# Altium schematic symbol library Wurth_Elektronik_Electromechanic_Wire_to_Board_Connectors_rev16a.SCHLIB: 662 symbols (part 2 of 10)
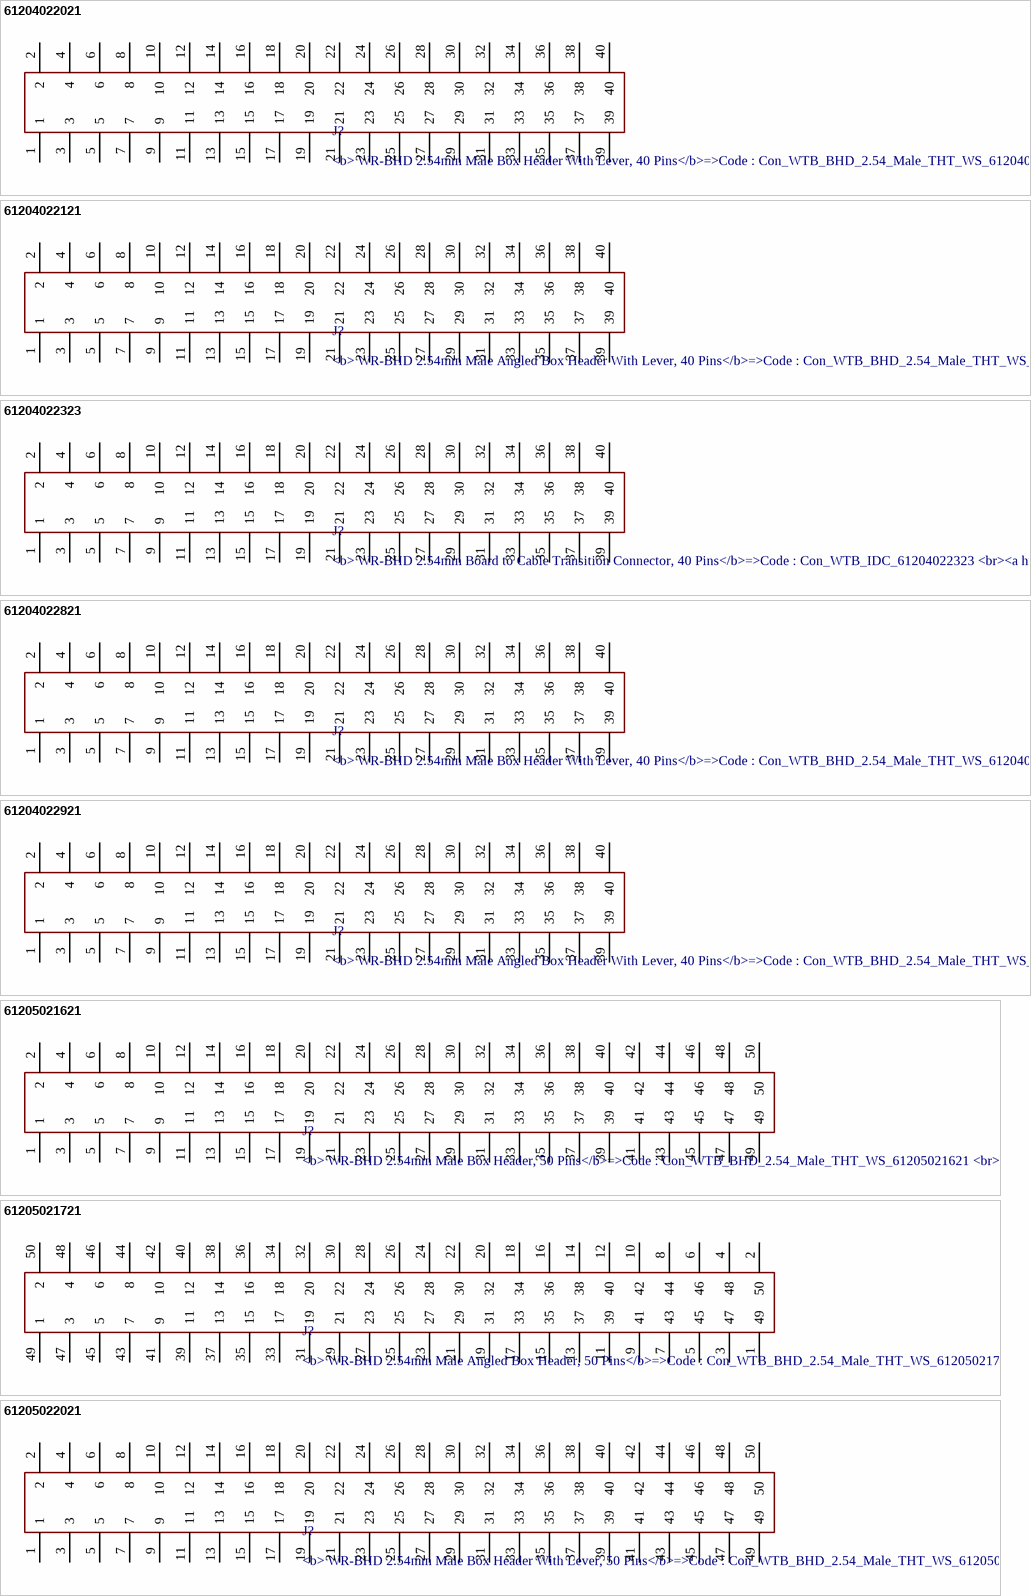
[diagram p63: symbols 61204022021 to 61205022021]

## 61204022121
designator J?, comment <b> WR-BHD 2.54mm Male Angled Box Header With Lever, 40 Pins</b>=>Code : Con_WTB_BHD_2.54_Male_THT_WS_61204022121 / <br><a href="http://katalog.we-online.de/media/thumbs2/eican/thb_Con_WTB_BHD_2.54_Male_THT_WS_6120xx22121_pf2.jpg" title="Enlarge picture"> / <img src="http://katalog.we-online.de/media/thumbs2/eican/thb_Con_WTB_BHD_2.54_Male_THT_WS_6120xx22121_pf2.jpg"  width="320"></a><p> / Details see: <a href="http://katalog.we-online.de/en/em/612_0xx_221_21">http://katalog.we-online.de/en/em/612_0xx_221_21</a><p> / Created 2014-06-05, Karrer Zheng<br> / 2014 (C) Würth Elektronik
footprint 61204022121
pins: 1, 2, 3, 4, 5, 6, 7, 8, 9, 10, 11, 12, 13, 14, 15, 16, 17, 18, 19, 20, 21, 22, 23, 24, 25, 26, 27, 28, 29, 30, 31, 32, 33, 34, 35, 36, 37, 38, 39, 40

## 61204022323
designator J?, comment <b> WR-BHD 2.54mm Board to Cable Transition Connector, 40 Pins</b>=>Code : Con_WTB_IDC_61204022323 / <br><a href="http://katalog.we-online.de/media/thumbs2/eican/thb_Con_WTB_IDC_6120xx22323_pf2.jpg" title="Enlarge picture"> / <img src="http://katalog.we-online.de/media/thumbs2/eican/thb_Con_WTB_IDC_6120xx22323_pf2.jpg"  width="320"></a><p> / Details see: <a href="http://katalog.we-online.de/en/em/612_0xx_223_23">http://katalog.we-online.de/en/em/612_0xx_223_23</a><p> / Created 2014-06-05, Karrer Zheng<br> / 2014 (C) Würth Elektronik
footprint 61204022323
pins: 1, 2, 3, 4, 5, 6, 7, 8, 9, 10, 11, 12, 13, 14, 15, 16, 17, 18, 19, 20, 21, 22, 23, 24, 25, 26, 27, 28, 29, 30, 31, 32, 33, 34, 35, 36, 37, 38, 39, 40

## 61204022821
designator J?, comment <b> WR-BHD 2.54mm Male Box Header With Lever, 40 Pins</b>=>Code : Con_WTB_BHD_2.54_Male_THT_WS_61204022821 / <br><a href="http://katalog.we-online.de/media/thumbs2/eican/thb_Con_WTB_BHD_2.54_Male_THT_WS_6120xx22821_pf2.jpg" title="Enlarge picture"> / <img src="http://katalog.we-online.de/media/thumbs2/eican/thb_Con_WTB_BHD_2.54_Male_THT_WS_6120xx22821_pf2.jpg"  width="320"></a><p> / Details see: <a href="http://katalog.we-online.de/en/em/612_0xx_228_21">http://katalog.we-online.de/en/em/612_0xx_228_21</a><p> / Created 2014-06-05, Karrer Zheng<br> / 2014 (C) Würth Elektronik
footprint 61204022821
pins: 1, 2, 3, 4, 5, 6, 7, 8, 9, 10, 11, 12, 13, 14, 15, 16, 17, 18, 19, 20, 21, 22, 23, 24, 25, 26, 27, 28, 29, 30, 31, 32, 33, 34, 35, 36, 37, 38, 39, 40

## 61204022921
designator J?, comment <b> WR-BHD 2.54mm Male Angled Box Header With Lever, 40 Pins</b>=>Code : Con_WTB_BHD_2.54_Male_THT_WS_61204022921 / <br><a href="http://katalog.we-online.de/media/thumbs2/eican/thb_Con_WTB_BHD_2.54_Male_THT_WS_6120xx22921_pf2.jpg" title="Enlarge picture"> / <img src="http://katalog.we-online.de/media/thumbs2/eican/thb_Con_WTB_BHD_2.54_Male_THT_WS_6120xx22921_pf2.jpg"  width="320"></a><p> / Details see: <a href="http://katalog.we-online.de/en/em/612_0xx_229_21">http://katalog.we-online.de/en/em/612_0xx_229_21</a><p> / Created 2014-06-05, Karrer Zheng<br> / 2014 (C) Würth Elektronik
footprint 61204022921
pins: 1, 2, 3, 4, 5, 6, 7, 8, 9, 10, 11, 12, 13, 14, 15, 16, 17, 18, 19, 20, 21, 22, 23, 24, 25, 26, 27, 28, 29, 30, 31, 32, 33, 34, 35, 36, 37, 38, 39, 40

## 61205021621
designator J?, comment <b> WR-BHD 2.54mm Male Box Header, 50 Pins</b>=>Code : Con_WTB_BHD_2.54_Male_THT_WS_61205021621 / <br><a href="http://katalog.we-online.de/media/thumbs2/eican/thb_Con_WTB_BHD_2.54_Male_THT_WS_6120xx21621_pf2.jpg" title="Enlarge picture"> / <img src="http://katalog.we-online.de/media/thumbs2/eican/thb_Con_WTB_BHD_2.54_Male_THT_WS_6120xx21621_pf2.jpg"  width="320"></a><p> / Details see: <a href="http://katalog.we-online.de/en/em/612_0xx_216_21">http://katalog.we-online.de/en/em/612_0xx_216_21</a><p> / Created 2014-06-04, Karrer Zheng<br> / 2014 (C) Würth Elektronik
footprint 61205021621
pins: 1, 2, 3, 4, 5, 6, 7, 8, 9, 10, 11, 12, 13, 14, 15, 16, 17, 18, 19, 20, 21, 22, 23, 24, 25, 26, 27, 28, 29, 30, 31, 32, 33, 34, 35, 36, 37, 38, 39, 40, 41, 42, 43, 44, 45, 46, 47, 48, 49, 50

## 61205021721
designator J?, comment <b> WR-BHD 2.54mm Male Angled Box Header, 50 Pins</b>=>Code : Con_WTB_BHD_2.54_Male_THT_WS_61205021721 / <br><a href="http://katalog.we-online.de/media/thumbs2/eican/thb_Con_WTB_BHD_2.54_Male_THT_WS_6120xx21721_pf2.jpg" title="Enlarge picture"> / <img src="http://katalog.we-online.de/media/thumbs2/eican/thb_Con_WTB_BHD_2.54_Male_THT_WS_6120xx21721_pf2.jpg"  width="320"></a><p> / Details see: <a href="http://katalog.we-online.de/en/em/612_0xx_217_21">http://katalog.we-online.de/en/em/612_0xx_217_21</a><p> / Created 2014-06-05, Karrer Zheng<br> / 2014 (C) Würth Elektronik
footprint 61205021721
pins: 1 49, 2 50, 3 47, 4 48, 5 45, 6 46, 7 43, 8 44, 9 41, 10 42, 11 39, 12 40, 13 37, 14 38, 15 35, 16 36, 17 33, 18 34, 19 31, 20 32, 21 29, 22 30, 23 27, 24 28, 25, 26, 27 23, 28 24, 29 21, 30 22, 31 19, 32 20, 33 17, 34 18, 35 15, 36 16, 37 13, 38 14, 39 11, 40 12, 41 9, 42 10, 43 7, 44 8, 45 5, 46 6, 47 3, 48 4, 49 1, 50 2

## 61205022021
designator J?, comment <b> WR-BHD 2.54mm Male Box Header With Lever, 50 Pins</b>=>Code : Con_WTB_BHD_2.54_Male_THT_WS_61205022021 / <br><a href="http://katalog.we-online.de/media/thumbs2/eican/thb_Con_WTB_BHD_2.54_Male_THT_WS_6120xx22021_pf2.jpg" title="Enlarge picture"> / <img src="http://katalog.we-online.de/media/thumbs2/eican/thb_Con_WTB_BHD_2.54_Male_THT_WS_6120xx22021_pf2.jpg"  width="320"></a><p> / Details see: <a href="http://katalog.we-online.de/en/em/612_0xx_220_21">http://katalog.we-online.de/en/em/612_0xx_220_21</a><p> / Created 2014-06-05, Karrer Zheng<br> / 2014 (C) Würth Elektronik
footprint 61205022021
pins: 1, 2, 3, 4, 5, 6, 7, 8, 9, 10, 11, 12, 13, 14, 15, 16, 17, 18, 19, 20, 21, 22, 23, 24, 25, 26, 27, 28, 29, 30, 31, 32, 33, 34, 35, 36, 37, 38, 39, 40, 41, 42, 43, 44, 45, 46, 47, 48, 49, 50

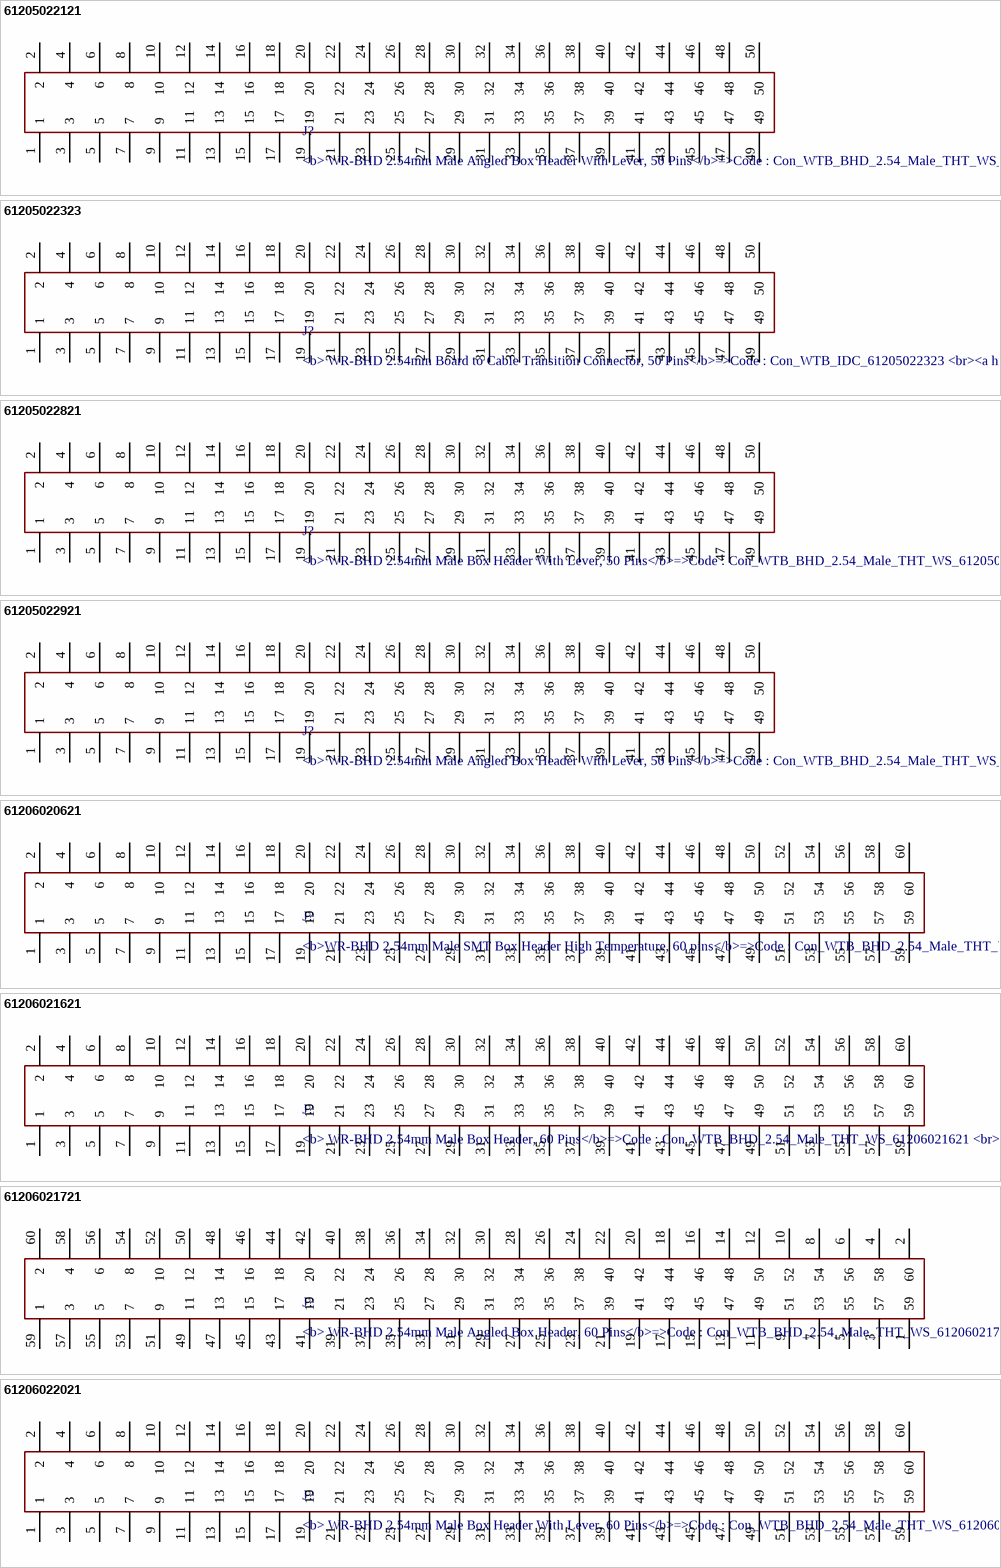
[diagram p8: symbols 61205022121 to 61206022021]

## 61205022121
designator J?, comment <b> WR-BHD 2.54mm Male Angled Box Header With Lever, 50 Pins</b>=>Code : Con_WTB_BHD_2.54_Male_THT_WS_61205022121 / <br><a href="http://katalog.we-online.de/media/thumbs2/eican/thb_Con_WTB_BHD_2.54_Male_THT_WS_6120xx22121_pf2.jpg" title="Enlarge picture"> / <img src="http://katalog.we-online.de/media/thumbs2/eican/thb_Con_WTB_BHD_2.54_Male_THT_WS_6120xx22121_pf2.jpg"  width="320"></a><p> / Details see: <a href="http://katalog.we-online.de/en/em/612_0xx_221_21">http://katalog.we-online.de/en/em/612_0xx_221_21</a><p> / Created 2014-06-05, Karrer Zheng<br> / 2014 (C) Würth Elektronik
footprint 61205022121
pins: 1, 2, 3, 4, 5, 6, 7, 8, 9, 10, 11, 12, 13, 14, 15, 16, 17, 18, 19, 20, 21, 22, 23, 24, 25, 26, 27, 28, 29, 30, 31, 32, 33, 34, 35, 36, 37, 38, 39, 40, 41, 42, 43, 44, 45, 46, 47, 48, 49, 50

## 61205022323
designator J?, comment <b> WR-BHD 2.54mm Board to Cable Transition Connector, 50 Pins</b>=>Code : Con_WTB_IDC_61205022323 / <br><a href="http://katalog.we-online.de/media/thumbs2/eican/thb_Con_WTB_IDC_6120xx22323_pf2.jpg" title="Enlarge picture"> / <img src="http://katalog.we-online.de/media/thumbs2/eican/thb_Con_WTB_IDC_6120xx22323_pf2.jpg"  width="320"></a><p> / Details see: <a href="http://katalog.we-online.de/en/em/612_0xx_223_23">http://katalog.we-online.de/en/em/612_0xx_223_23</a><p> / Created 2014-06-05, Karrer Zheng<br> / 2014 (C) Würth Elektronik
footprint 61205022323
pins: 1, 2, 3, 4, 5, 6, 7, 8, 9, 10, 11, 12, 13, 14, 15, 16, 17, 18, 19, 20, 21, 22, 23, 24, 25, 26, 27, 28, 29, 30, 31, 32, 33, 34, 35, 36, 37, 38, 39, 40, 41, 42, 43, 44, 45, 46, 47, 48, 49, 50

## 61205022821
designator J?, comment <b> WR-BHD 2.54mm Male Box Header With Lever, 50 Pins</b>=>Code : Con_WTB_BHD_2.54_Male_THT_WS_61205022821 / <br><a href="http://katalog.we-online.de/media/thumbs2/eican/thb_Con_WTB_BHD_2.54_Male_THT_WS_6120xx22821_pf2.jpg" title="Enlarge picture"> / <img src="http://katalog.we-online.de/media/thumbs2/eican/thb_Con_WTB_BHD_2.54_Male_THT_WS_6120xx22821_pf2.jpg"  width="320"></a><p> / Details see: <a href="http://katalog.we-online.de/en/em/612_0xx_228_21">http://katalog.we-online.de/en/em/612_0xx_228_21</a><p> / Created 2014-06-05, Karrer Zheng<br> / 2014 (C) Würth Elektronik
footprint 61205022821
pins: 1, 2, 3, 4, 5, 6, 7, 8, 9, 10, 11, 12, 13, 14, 15, 16, 17, 18, 19, 20, 21, 22, 23, 24, 25, 26, 27, 28, 29, 30, 31, 32, 33, 34, 35, 36, 37, 38, 39, 40, 41, 42, 43, 44, 45, 46, 47, 48, 49, 50

## 61205022921
designator J?, comment <b> WR-BHD 2.54mm Male Angled Box Header With Lever, 50 Pins</b>=>Code : Con_WTB_BHD_2.54_Male_THT_WS_61205022921 / <br><a href="http://katalog.we-online.de/media/thumbs2/eican/thb_Con_WTB_BHD_2.54_Male_THT_WS_6120xx22921_pf2.jpg" title="Enlarge picture"> / <img src="http://katalog.we-online.de/media/thumbs2/eican/thb_Con_WTB_BHD_2.54_Male_THT_WS_6120xx22921_pf2.jpg"  width="320"></a><p> / Details see: <a href="http://katalog.we-online.de/en/em/612_0xx_229_21">http://katalog.we-online.de/en/em/612_0xx_229_21</a><p> / Created 2014-06-05, Karrer Zheng<br> / 2014 (C) Würth Elektronik
footprint 61205022921
pins: 1, 2, 3, 4, 5, 6, 7, 8, 9, 10, 11, 12, 13, 14, 15, 16, 17, 18, 19, 20, 21, 22, 23, 24, 25, 26, 27, 28, 29, 30, 31, 32, 33, 34, 35, 36, 37, 38, 39, 40, 41, 42, 43, 44, 45, 46, 47, 48, 49, 50

## 61206020621
designator J?, comment <b>WR-BHD 2.54mm Male SMT Box Header High Temperature, 60 pins</b>=>Code : Con_WTB_BHD_2.54_Male_THT_WS_61206020621 / <br><a href="http://katalog.we-online.de/media/thumbs2/eican/thb_Con_WTB_BHD_2.54_Male_THT_WS_6120xx21621_pf2.jpg" title="Enlarge picture"> / <img src="http://katalog.we-online.de/media/thumbs2/eican/thb_Con_WTB_BHD_2.54_Male_THT_WS_6120xx21621_pf2.jpg"  width="320"></a><p> / Details see: <a href="http://katalog.we-online.de/en/em/612_0xx_216_21">http://katalog.we-online.de/en/em/612_0xx_216_21</a><p> / Created 2014-06-04, Karrer Zheng<br> / 2014 (C) Würth Elektronik
footprint 61206020621
pins: 1, 2, 3, 4, 5, 6, 7, 8, 9, 10, 11, 12, 13, 14, 15, 16, 17, 18, 19, 20, 21, 22, 23, 24, 25, 26, 27, 28, 29, 30, 31, 32, 33, 34, 35, 36, 37, 38, 39, 40, 41, 42, 43, 44, 45, 46, 47, 48, 49, 50, 51, 52, 53, 54, 55, 56, 57, 58, 59, 60

## 61206021621
designator J?, comment <b> WR-BHD 2.54mm Male Box Header, 60 Pins</b>=>Code : Con_WTB_BHD_2.54_Male_THT_WS_61206021621 / <br><a href="http://katalog.we-online.de/media/thumbs2/eican/thb_Con_WTB_BHD_2.54_Male_THT_WS_6120xx21621_pf2.jpg" title="Enlarge picture"> / <img src="http://katalog.we-online.de/media/thumbs2/eican/thb_Con_WTB_BHD_2.54_Male_THT_WS_6120xx21621_pf2.jpg"  width="320"></a><p> / Details see: <a href="http://katalog.we-online.de/en/em/612_0xx_216_21">http://katalog.we-online.de/en/em/612_0xx_216_21</a><p> / Created 2014-06-04, Karrer Zheng<br> / 2014 (C) Würth Elektronik
footprint 61206021621
pins: 1, 2, 3, 4, 5, 6, 7, 8, 9, 10, 11, 12, 13, 14, 15, 16, 17, 18, 19, 20, 21, 22, 23, 24, 25, 26, 27, 28, 29, 30, 31, 32, 33, 34, 35, 36, 37, 38, 39, 40, 41, 42, 43, 44, 45, 46, 47, 48, 49, 50, 51, 52, 53, 54, 55, 56, 57, 58, 59, 60

## 61206021721
designator J?, comment <b> WR-BHD 2.54mm Male Angled Box Header, 60 Pins</b>=>Code : Con_WTB_BHD_2.54_Male_THT_WS_61206021721 / <br><a href="http://katalog.we-online.de/media/thumbs2/eican/thb_Con_WTB_BHD_2.54_Male_THT_WS_6120xx21721_pf2.jpg" title="Enlarge picture"> / <img src="http://katalog.we-online.de/media/thumbs2/eican/thb_Con_WTB_BHD_2.54_Male_THT_WS_6120xx21721_pf2.jpg"  width="320"></a><p> / Details see: <a href="http://katalog.we-online.de/en/em/612_0xx_217_21">http://katalog.we-online.de/en/em/612_0xx_217_21</a><p> / Created 2014-06-05, Karrer Zheng<br> / 2014 (C) Würth Elektronik
footprint 61206021721
pins: 1 59, 2 60, 3 57, 4 58, 5 55, 6 56, 7 53, 8 54, 9 51, 10 52, 11 49, 12 50, 13 47, 14 48, 15 45, 16 46, 17 43, 18 44, 19 41, 20 42, 21 39, 22 40, 23 37, 24 38, 25 35, 26 36, 27 33, 28 34, 29 31, 30 32, 31 29, 32 30, 33 27, 34 28, 35 25, 36 26, 37 23, 38 24, 39 21, 40 22, 41 19, 42 20, 43 17, 44 18, 45 15, 46 16, 47 13, 48 14, 49 11, 50 12, 51 9, 52 10, 53 7, 54 8, 55 5, 56 6, 57 3, 58 4, 59 1, 60 2

## 61206022021
designator J?, comment <b> WR-BHD 2.54mm Male Box Header With Lever, 60 Pins</b>=>Code : Con_WTB_BHD_2.54_Male_THT_WS_61206022021 / <br><a href="http://katalog.we-online.de/media/thumbs2/eican/thb_Con_WTB_BHD_2.54_Male_THT_WS_6120xx22021_pf2.jpg" title="Enlarge picture"> / <img src="http://katalog.we-online.de/media/thumbs2/eican/thb_Con_WTB_BHD_2.54_Male_THT_WS_6120xx22021_pf2.jpg"  width="320"></a><p> / Details see: <a href="http://katalog.we-online.de/en/em/612_0xx_220_21">http://katalog.we-online.de/en/em/612_0xx_220_21</a><p> / Created 2014-06-05, Karrer Zheng<br> / 2014 (C) Würth Elektronik
footprint 61206022021
pins: 1, 2, 3, 4, 5, 6, 7, 8, 9, 10, 11, 12, 13, 14, 15, 16, 17, 18, 19, 20, 21, 22, 23, 24, 25, 26, 27, 28, 29, 30, 31, 32, 33, 34, 35, 36, 37, 38, 39, 40, 41, 42, 43, 44, 45, 46, 47, 48, 49, 50, 51, 52, 53, 54, 55, 56, 57, 58, 59, 60

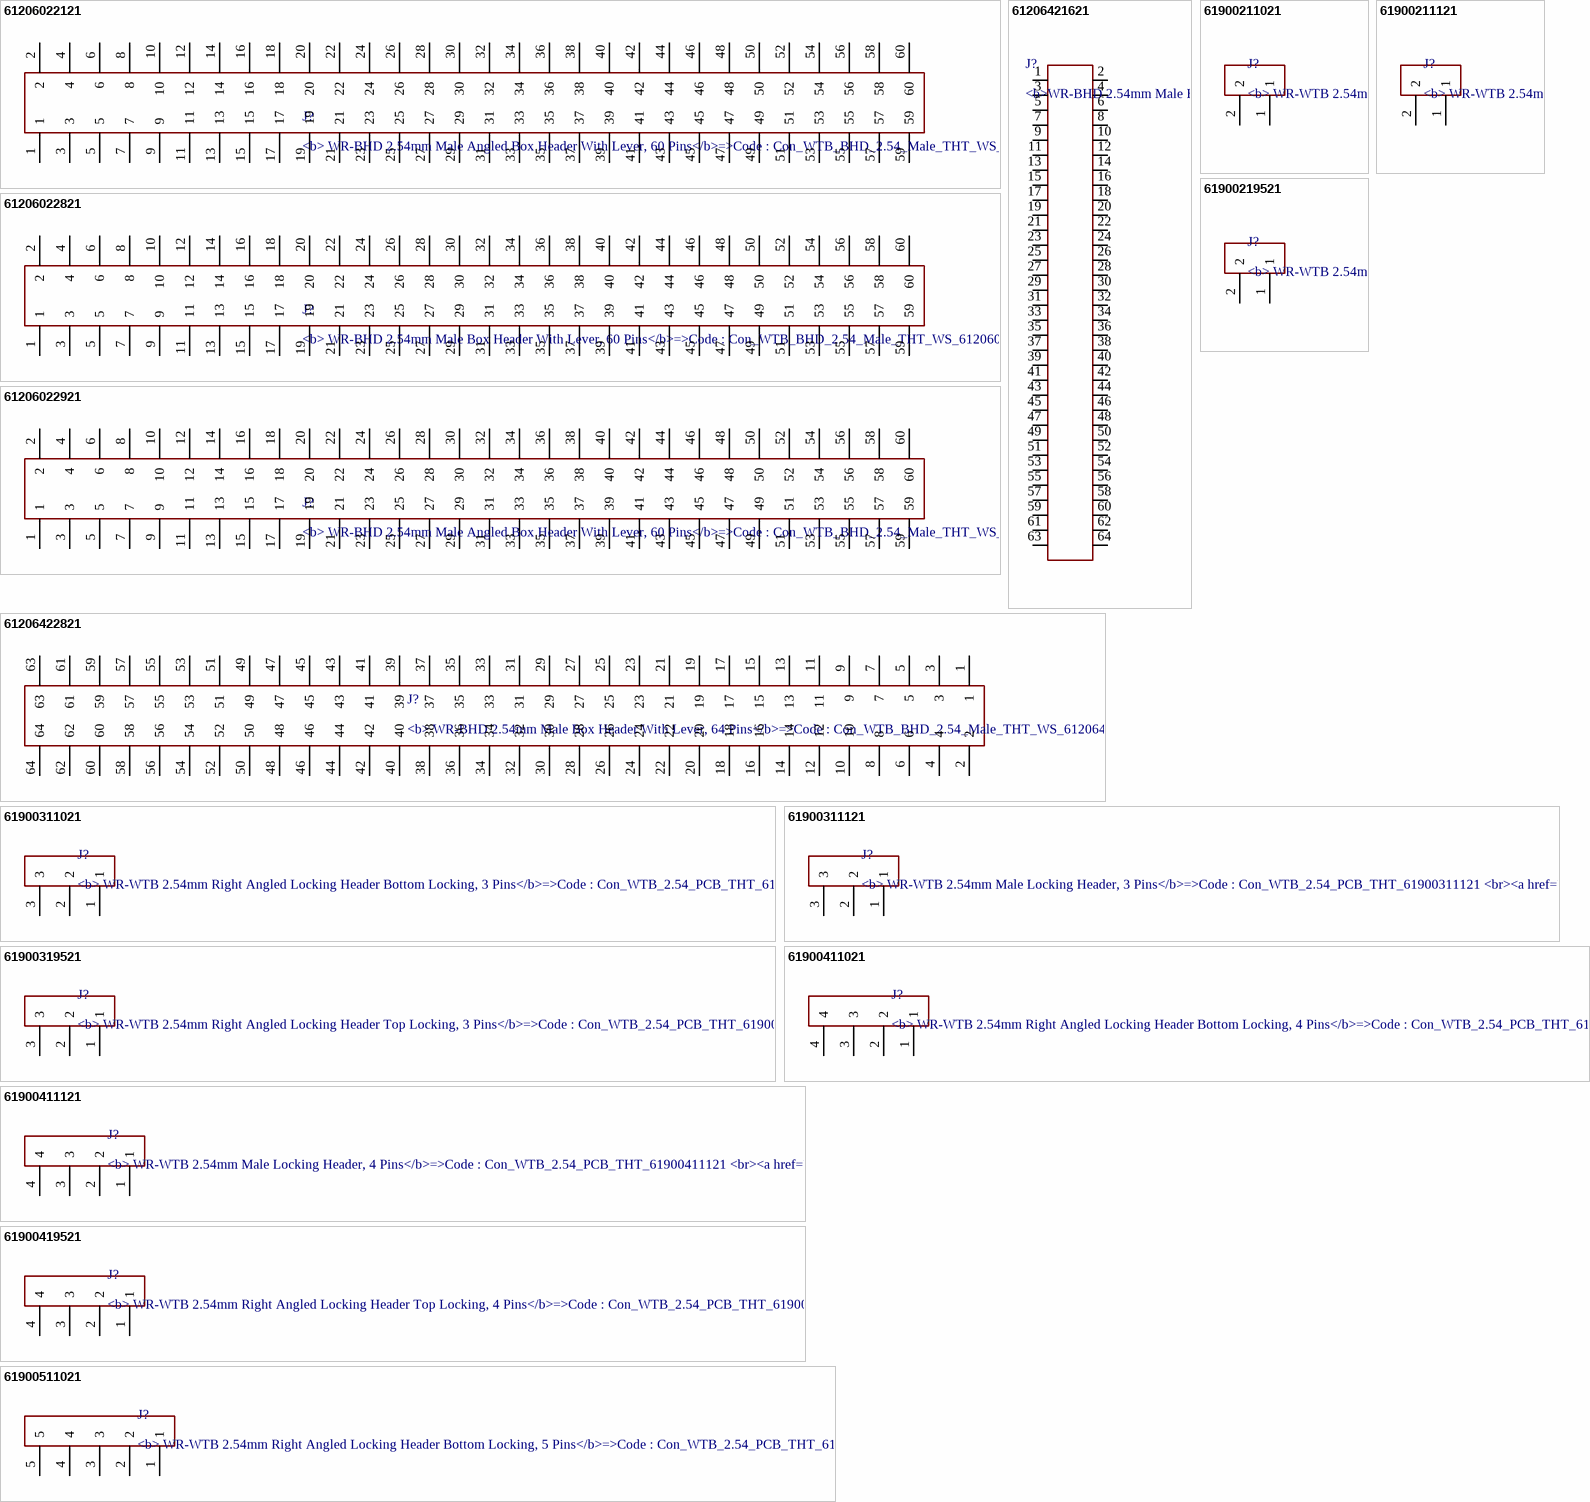
[diagram p9: symbols 61206022121 to 61900511021]

## 61206022121
designator J?, comment <b> WR-BHD 2.54mm Male Angled Box Header With Lever, 60 Pins</b>=>Code : Con_WTB_BHD_2.54_Male_THT_WS_61206022121 / <br><a href="http://katalog.we-online.de/media/thumbs2/eican/thb_Con_WTB_BHD_2.54_Male_THT_WS_6120xx22121_pf2.jpg" title="Enlarge picture"> / <img src="http://katalog.we-online.de/media/thumbs2/eican/thb_Con_WTB_BHD_2.54_Male_THT_WS_6120xx22121_pf2.jpg"  width="320"></a><p> / Details see: <a href="http://katalog.we-online.de/en/em/612_0xx_221_21">http://katalog.we-online.de/en/em/612_0xx_221_21</a><p> / Created 2014-06-05, Karrer Zheng<br> / 2014 (C) Würth Elektronik
footprint 61206022121
pins: 1, 2, 3, 4, 5, 6, 7, 8, 9, 10, 11, 12, 13, 14, 15, 16, 17, 18, 19, 20, 21, 22, 23, 24, 25, 26, 27, 28, 29, 30, 31, 32, 33, 34, 35, 36, 37, 38, 39, 40, 41, 42, 43, 44, 45, 46, 47, 48, 49, 50, 51, 52, 53, 54, 55, 56, 57, 58, 59, 60

## 61206022821
designator J?, comment <b> WR-BHD 2.54mm Male Box Header With Lever, 60 Pins</b>=>Code : Con_WTB_BHD_2.54_Male_THT_WS_61206022821 / <br><a href="http://katalog.we-online.de/media/thumbs2/eican/thb_Con_WTB_BHD_2.54_Male_THT_WS_6120xx22821_pf2.jpg" title="Enlarge picture"> / <img src="http://katalog.we-online.de/media/thumbs2/eican/thb_Con_WTB_BHD_2.54_Male_THT_WS_6120xx22821_pf2.jpg"  width="320"></a><p> / Details see: <a href="http://katalog.we-online.de/en/em/612_0xx_228_21">http://katalog.we-online.de/en/em/612_0xx_228_21</a><p> / Created 2014-06-05, Karrer Zheng<br> / 2014 (C) Würth Elektronik
footprint 61206022821
pins: 1, 2, 3, 4, 5, 6, 7, 8, 9, 10, 11, 12, 13, 14, 15, 16, 17, 18, 19, 20, 21, 22, 23, 24, 25, 26, 27, 28, 29, 30, 31, 32, 33, 34, 35, 36, 37, 38, 39, 40, 41, 42, 43, 44, 45, 46, 47, 48, 49, 50, 51, 52, 53, 54, 55, 56, 57, 58, 59, 60

## 61206022921
designator J?, comment <b> WR-BHD 2.54mm Male Angled Box Header With Lever, 60 Pins</b>=>Code : Con_WTB_BHD_2.54_Male_THT_WS_61206022921 / <br><a href="http://katalog.we-online.de/media/thumbs2/eican/thb_Con_WTB_BHD_2.54_Male_THT_WS_6120xx22921_pf2.jpg" title="Enlarge picture"> / <img src="http://katalog.we-online.de/media/thumbs2/eican/thb_Con_WTB_BHD_2.54_Male_THT_WS_6120xx22921_pf2.jpg"  width="320"></a><p> / Details see: <a href="http://katalog.we-online.de/en/em/612_0xx_229_21">http://katalog.we-online.de/en/em/612_0xx_229_21</a><p> / Created 2014-06-05, Karrer Zheng<br> / 2014 (C) Würth Elektronik
footprint 61206022921
pins: 1, 2, 3, 4, 5, 6, 7, 8, 9, 10, 11, 12, 13, 14, 15, 16, 17, 18, 19, 20, 21, 22, 23, 24, 25, 26, 27, 28, 29, 30, 31, 32, 33, 34, 35, 36, 37, 38, 39, 40, 41, 42, 43, 44, 45, 46, 47, 48, 49, 50, 51, 52, 53, 54, 55, 56, 57, 58, 59, 60

## 61206421621
designator J?, comment <b>WR-BHD 2.54mm Male Box Header - 64 Pins;</b>=>Code :  _61206421621 / <p><a href="http://katalog.we-online.de/media/images/eican/"> / <img src="http://katalog.we-online.de/media/thumbs2/eican/" width="320"></a><p> / <p>Details see: <a href="http://katalog.we-online.de/em/datasheet/6120xx21621.pdf">http://katalog.we-online.de/em/datasheet/6120xx21621.pdf</a> / <p>Created 11/27/2014, Karrer Zheng / <p>2014 (C) Wurth Elektronik
footprint 61206421621
pins: 1, 2, 3, 4, 5, 6, 7, 8, 9, 10, 11, 12, 13, 14, 15, 16, 17, 18, 19, 20, 21, 22, 23, 24, 25, 26, 27, 28, 29, 30, 31, 32, 33, 34, 35, 36, 37, 38, 39, 40, 41, 42, 43, 44, 45, 46, 47, 48, 49, 50, 51, 52, 53, 54, 55, 56, 57, 58, 59, 60, 61, 62, 63, 64

## 61206422821
designator J?, comment <b> WR-BHD 2.54mm Male Box Header With Lever, 64 Pins</b>=>Code : Con_WTB_BHD_2.54_Male_THT_WS_61206422821 / <br><a href="http://katalog.we-online.de/media/thumbs2/eican/thb_Con_WTB_BHD_2.54_Male_THT_WS_6120xx22821_pf2.jpg" title="Enlarge picture"> / <img src="http://katalog.we-online.de/media/thumbs2/eican/thb_Con_WTB_BHD_2.54_Male_THT_WS_6120xx22821_pf2.jpg"  width="320"></a><p> / Details see: <a href="http://katalog.we-online.de/en/em/612_0xx_228_21">http://katalog.we-online.de/en/em/612_0xx_228_21</a><p> / Created 2014-06-05, Karrer Zheng<br> / 2014 (C) Würth Elektronik
footprint 61206422821
pins: 1, 2, 3, 4, 5, 6, 7, 8, 9, 10, 11, 12, 13, 14, 15, 16, 17, 18, 19, 20, 21, 22, 23, 24, 25, 26, 27, 28, 29, 30, 31, 32, 33, 34, 35, 36, 37, 38, 39, 40, 41, 42, 43, 44, 45, 46, 47, 48, 49, 50, 51, 52, 53, 54, 55, 56, 57, 58, 59, 60, 61, 62, 63, 64

## 61900211021
designator J?, comment <b> WR-WTB 2.54mm Right Angled Locking Header Bottom Locking, 2 Pins</b>=>Code : Con_WTB_2.54_PCB_THT_61900211021 / <br><a href="http://katalog.we-online.de/media/thumbs2/eican/thb_Con_WTB_2.54_PCB_THT_6190xx11021_pf2.jpg" title="Enlarge picture"> / <img src="http://katalog.we-online.de/media/thumbs2/eican/thb_Con_WTB_2.54_PCB_THT_6190xx11021_pf2.jpg"  width="320"></a><p> / Details see: <a href="http://katalog.we-online.de/en/em/619_0xx_110_21">http://katalog.we-online.de/en/em/619_0xx_110_21</a><p> / Created 2014-06-05, Karrer Zheng<br> / 2014 (C) Würth Elektronik
footprint 61900211021
pins: 1, 2

## 61900211121
designator J?, comment <b> WR-WTB 2.54mm Male Locking Header, 2 Pins</b>=>Code : Con_WTB_2.54_PCB_THT_61900211121 / <br><a href="http://katalog.we-online.de/media/thumbs2/eican/thb_Con_WTB_2.54_PCB_THT_6190xx11121_pf2.jpg" title="Enlarge picture"> / <img src="http://katalog.we-online.de/media/thumbs2/eican/thb_Con_WTB_2.54_PCB_THT_6190xx11121_pf2.jpg"  width="320"></a><p> / Details see: <a href="http://katalog.we-online.de/en/em/619_0xx_111_21">http://katalog.we-online.de/en/em/619_0xx_111_21</a><p> / Created 2014-06-05, Karrer Zheng<br> / 2014 (C) Würth Elektronik
footprint 61900211121
pins: 1, 2

## 61900219521
designator J?, comment <b> WR-WTB 2.54mm Right Angled Locking Header Top Locking, 2 Pins</b>=>Code : Con_WTB_2.54_PCB_THT_61900219521 / <br><a href="http://katalog.we-online.de/media/thumbs2/eican/thb_Con_WTB_2.54_PCB_THT_6190xx19521_pf2.jpg" title="Enlarge picture"> / <img src="http://katalog.we-online.de/media/thumbs2/eican/thb_Con_WTB_2.54_PCB_THT_6190xx19521_pf2.jpg"  width="320"></a><p> / Details see: <a href="http://katalog.we-online.de/en/em/619_0xx_195_21">http://katalog.we-online.de/en/em/619_0xx_195_21</a><p> / Created 2014-06-05, Karrer Zheng<br> / 2014 (C) Würth Elektronik
footprint 61900219521
pins: 1, 2

## 61900311021
designator J?, comment <b> WR-WTB 2.54mm Right Angled Locking Header Bottom Locking, 3 Pins</b>=>Code : Con_WTB_2.54_PCB_THT_61900311021 / <br><a href="http://katalog.we-online.de/media/thumbs2/eican/thb_Con_WTB_2.54_PCB_THT_6190xx11021_pf2.jpg" title="Enlarge picture"> / <img src="http://katalog.we-online.de/media/thumbs2/eican/thb_Con_WTB_2.54_PCB_THT_6190xx11021_pf2.jpg"  width="320"></a><p> / Details see: <a href="http://katalog.we-online.de/en/em/619_0xx_110_21">http://katalog.we-online.de/en/em/619_0xx_110_21</a><p> / Created 2014-06-05, Karrer Zheng<br> / 2014 (C) Würth Elektronik
footprint 61900311021
pins: 1, 2, 3

## 61900311121
designator J?, comment <b> WR-WTB 2.54mm Male Locking Header, 3 Pins</b>=>Code : Con_WTB_2.54_PCB_THT_61900311121 / <br><a href="http://katalog.we-online.de/media/thumbs2/eican/thb_Con_WTB_2.54_PCB_THT_6190xx11121_pf2.jpg" title="Enlarge picture"> / <img src="http://katalog.we-online.de/media/thumbs2/eican/thb_Con_WTB_2.54_PCB_THT_6190xx11121_pf2.jpg"  width="320"></a><p> / Details see: <a href="http://katalog.we-online.de/en/em/619_0xx_111_21">http://katalog.we-online.de/en/em/619_0xx_111_21</a><p> / Created 2014-06-05, Karrer Zheng<br> / 2014 (C) Würth Elektronik
footprint 61900311121
pins: 1, 2, 3

## 61900319521
designator J?, comment <b> WR-WTB 2.54mm Right Angled Locking Header Top Locking, 3 Pins</b>=>Code : Con_WTB_2.54_PCB_THT_61900319521 / <br><a href="http://katalog.we-online.de/media/thumbs2/eican/thb_Con_WTB_2.54_PCB_THT_6190xx19521_pf2.jpg" title="Enlarge picture"> / <img src="http://katalog.we-online.de/media/thumbs2/eican/thb_Con_WTB_2.54_PCB_THT_6190xx19521_pf2.jpg"  width="320"></a><p> / Details see: <a href="http://katalog.we-online.de/en/em/619_0xx_195_21">http://katalog.we-online.de/en/em/619_0xx_195_21</a><p> / Created 2014-06-05, Karrer Zheng<br> / 2014 (C) Würth Elektronik
footprint 61900319521
pins: 1, 2, 3

## 61900411021
designator J?, comment <b> WR-WTB 2.54mm Right Angled Locking Header Bottom Locking, 4 Pins</b>=>Code : Con_WTB_2.54_PCB_THT_61900411021 / <br><a href="http://katalog.we-online.de/media/thumbs2/eican/thb_Con_WTB_2.54_PCB_THT_6190xx11021_pf2.jpg" title="Enlarge picture"> / <img src="http://katalog.we-online.de/media/thumbs2/eican/thb_Con_WTB_2.54_PCB_THT_6190xx11021_pf2.jpg"  width="320"></a><p> / Details see: <a href="http://katalog.we-online.de/en/em/619_0xx_110_21">http://katalog.we-online.de/en/em/619_0xx_110_21</a><p> / Created 2014-06-05, Karrer Zheng<br> / 2014 (C) Würth Elektronik
footprint 61900411021
pins: 1, 2, 3, 4

## 61900411121
designator J?, comment <b> WR-WTB 2.54mm Male Locking Header, 4 Pins</b>=>Code : Con_WTB_2.54_PCB_THT_61900411121 / <br><a href="http://katalog.we-online.de/media/thumbs2/eican/thb_Con_WTB_2.54_PCB_THT_6190xx11121_pf2.jpg" title="Enlarge picture"> / <img src="http://katalog.we-online.de/media/thumbs2/eican/thb_Con_WTB_2.54_PCB_THT_6190xx11121_pf2.jpg"  width="320"></a><p> / Details see: <a href="http://katalog.we-online.de/en/em/619_0xx_111_21">http://katalog.we-online.de/en/em/619_0xx_111_21</a><p> / Created 2014-06-05, Karrer Zheng<br> / 2014 (C) Würth Elektronik
footprint 61900411121
pins: 1, 2, 3, 4

## 61900419521
designator J?, comment <b> WR-WTB 2.54mm Right Angled Locking Header Top Locking, 4 Pins</b>=>Code : Con_WTB_2.54_PCB_THT_61900419521 / <br><a href="http://katalog.we-online.de/media/thumbs2/eican/thb_Con_WTB_2.54_PCB_THT_6190xx19521_pf2.jpg" title="Enlarge picture"> / <img src="http://katalog.we-online.de/media/thumbs2/eican/thb_Con_WTB_2.54_PCB_THT_6190xx19521_pf2.jpg"  width="320"></a><p> / Details see: <a href="http://katalog.we-online.de/en/em/619_0xx_195_21">http://katalog.we-online.de/en/em/619_0xx_195_21</a><p> / Created 2014-06-05, Karrer Zheng<br> / 2014 (C) Würth Elektronik
footprint 61900419521
pins: 1, 2, 3, 4

## 61900511021
designator J?, comment <b> WR-WTB 2.54mm Right Angled Locking Header Bottom Locking, 5 Pins</b>=>Code : Con_WTB_2.54_PCB_THT_61900511021 / <br><a href="http://katalog.we-online.de/media/thumbs2/eican/thb_Con_WTB_2.54_PCB_THT_6190xx11021_pf2.jpg" title="Enlarge picture"> / <img src="http://katalog.we-online.de/media/thumbs2/eican/thb_Con_WTB_2.54_PCB_THT_6190xx11021_pf2.jpg"  width="320"></a><p> / Details see: <a href="http://katalog.we-online.de/en/em/619_0xx_110_21">http://katalog.we-online.de/en/em/619_0xx_110_21</a><p> / Created 2014-06-05, Karrer Zheng<br> / 2014 (C) Würth Elektronik
footprint 61900511021
pins: 1, 2, 3, 4, 5

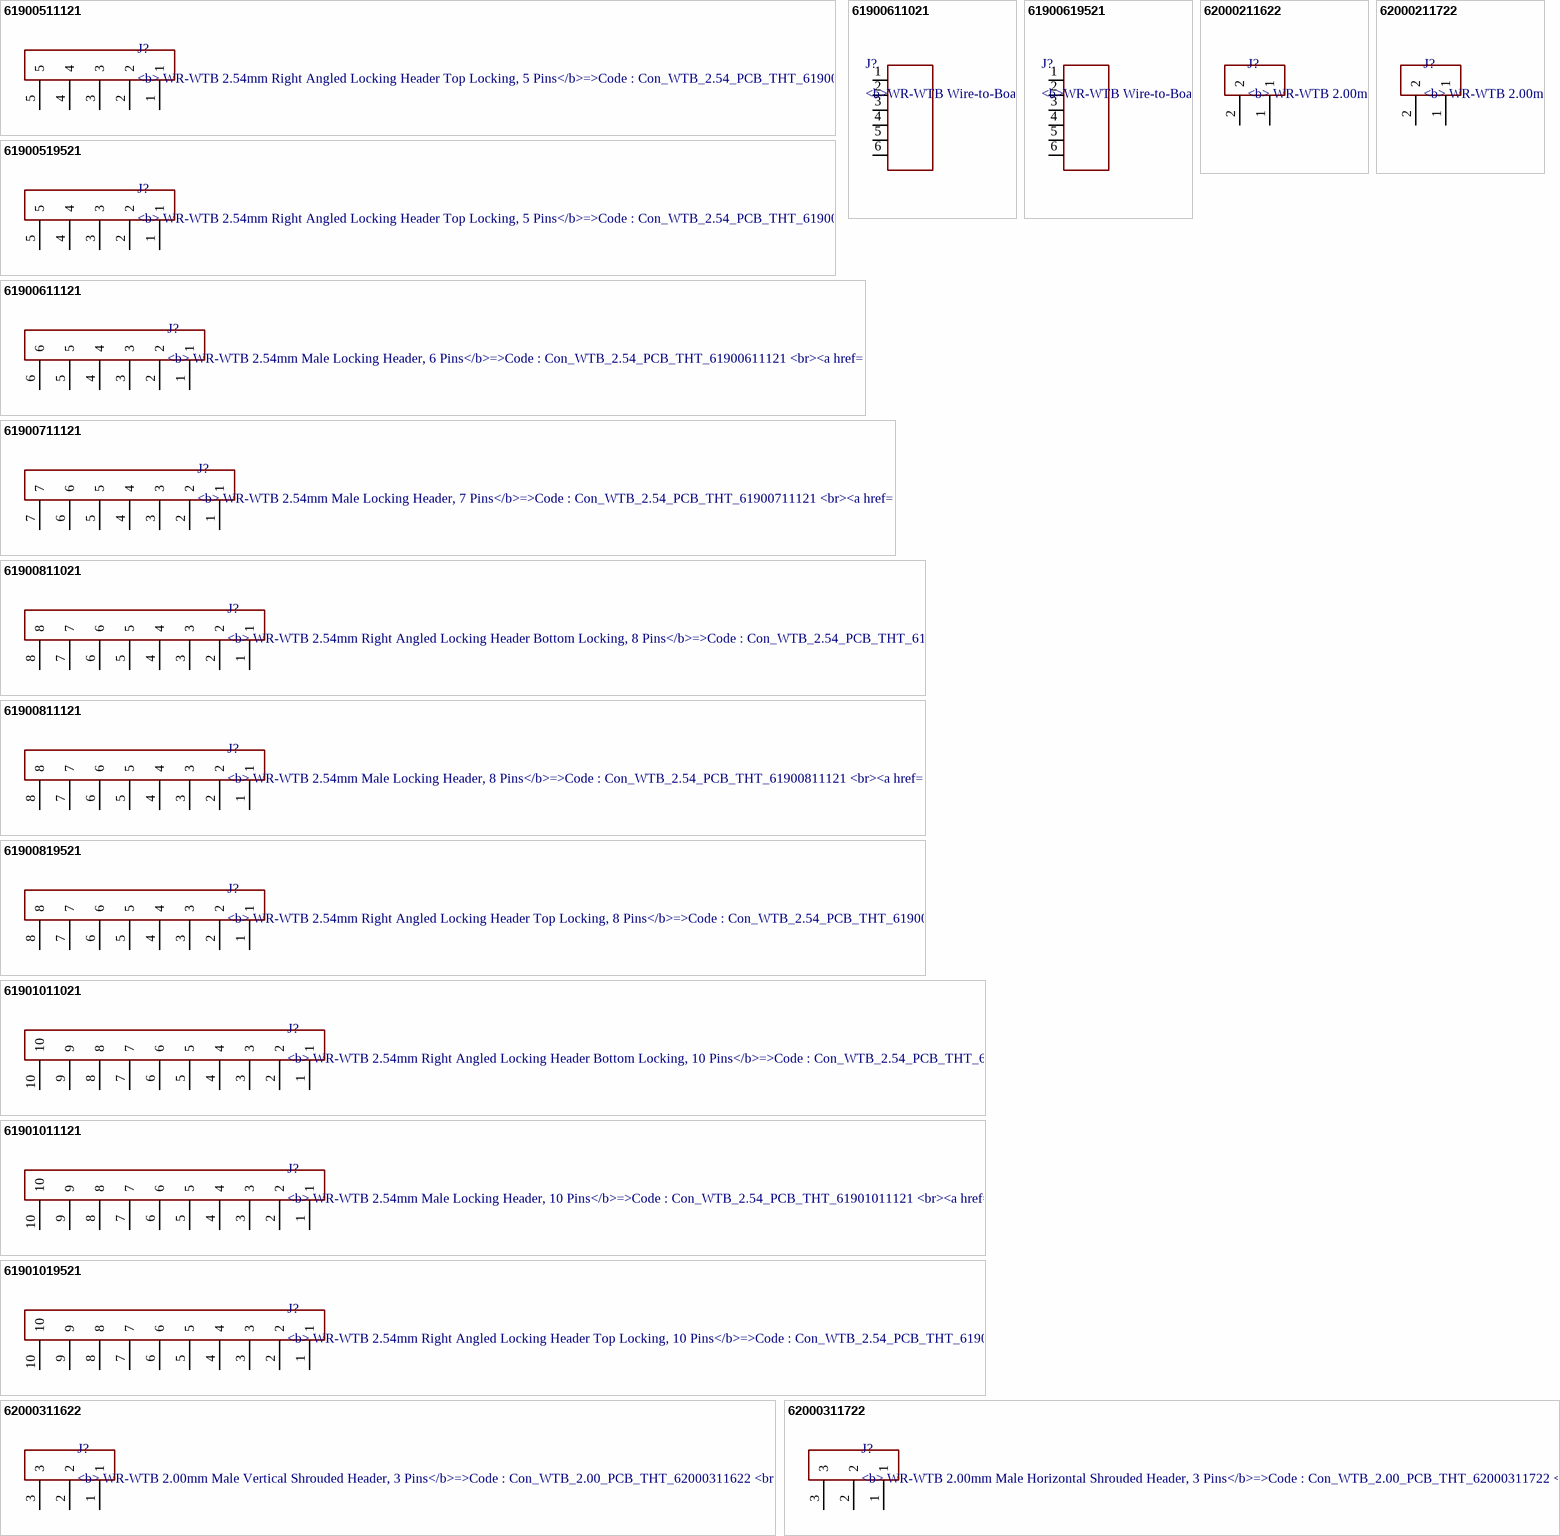
[diagram p10: symbols 61900511121 to 62000311722]

## 61900511121
designator J?, comment <b> WR-WTB 2.54mm Right Angled Locking Header Top Locking, 5 Pins</b>=>Code : Con_WTB_2.54_PCB_THT_61900511121 / <br><a href="http://katalog.we-online.de/media/thumbs2/eican/thb_Con_WTB_2.54_PCB_THT_6190xx11121_pf2.jpg" title="Enlarge picture"> / <img src="http://katalog.we-online.de/media/thumbs2/eican/thb_Con_WTB_2.54_PCB_THT_6190xx11121_pf2.jpg"  width="320"></a><p> / Details see: <a href="http://katalog.we-online.de/en/em/619_0xx_111_21">http://katalog.we-online.de/en/em/619_0xx_111_21</a><p> / Created 2014-06-05, Karrer Zheng<br> / 2014 (C) Würth Elektronik
footprint 61900511121
pins: 1, 2, 3, 4, 5

## 61900519521
designator J?, comment <b> WR-WTB 2.54mm Right Angled Locking Header Top Locking, 5 Pins</b>=>Code : Con_WTB_2.54_PCB_THT_61900519521 / <br><a href="http://katalog.we-online.de/media/thumbs2/eican/thb_Con_WTB_2.54_PCB_THT_6190xx19521_pf2.jpg" title="Enlarge picture"> / <img src="http://katalog.we-online.de/media/thumbs2/eican/thb_Con_WTB_2.54_PCB_THT_6190xx19521_pf2.jpg"  width="320"></a><p> / Details see: <a href="http://katalog.we-online.de/en/em/619_0xx_195_21">http://katalog.we-online.de/en/em/619_0xx_195_21</a><p> / Created 2014-06-05, Karrer Zheng<br> / 2014 (C) Würth Elektronik
footprint 61900519521
pins: 1, 2, 3, 4, 5

## 61900611021
designator J?, comment <b>WR-WTB Wire-to-Board Connectors 2.54 mm - 6 Pins;</b>=>Code :  _61900611021 / <p><a href="http://katalog.we-online.de/media/images/eican/"> / <img src="http://katalog.we-online.de/media/thumbs2/eican/" width="320"></a><p> / <p>Details see: <a href="http://katalog.we-online.de/em/datasheet/6190xx11021.pdf">http://katalog.we-online.de/em/datasheet/6190xx11021.pdf</a> / <p>Created 11/27/2014, Karrer Zheng / <p>2014 (C) Wurth Elektronik
footprint 61900611021
pins: 1, 2, 3, 4, 5, 6

## 61900611121
designator J?, comment <b> WR-WTB 2.54mm Male Locking Header, 6 Pins</b>=>Code : Con_WTB_2.54_PCB_THT_61900611121 / <br><a href="http://katalog.we-online.de/media/thumbs2/eican/thb_Con_WTB_2.54_PCB_THT_6190xx11121_pf2.jpg" title="Enlarge picture"> / <img src="http://katalog.we-online.de/media/thumbs2/eican/thb_Con_WTB_2.54_PCB_THT_6190xx11121_pf2.jpg"  width="320"></a><p> / Details see: <a href="http://katalog.we-online.de/en/em/619_0xx_111_21">http://katalog.we-online.de/en/em/619_0xx_111_21</a><p> / Created 2014-06-05, Karrer Zheng<br> / 2014 (C) Würth Elektronik
footprint 61900611121
pins: 1, 2, 3, 4, 5, 6

## 61900619521
designator J?, comment <b>WR-WTB Wire-to-Board Connectors 2.54 mm - 6 Pins;</b>=>Code : Con_WTB_2.54_PCB_THT_6190xx19521_61900619521 / <p><a href="http://katalog.we-online.de/media/images/eican/Con_WTB_2.54_PCB_THT_6190xx19521_pf2.jpg"> / <img src="http://katalog.we-online.de/media/thumbs2/eican/thb_Con_WTB_2.54_PCB_THT_6190xx19521_pf2.jpg" width="320"></a><p> / <p>Details see: <a href="http://katalog.we-online.de/em/datasheet/6190xx19521.pdf">http://katalog.we-online.de/em/datasheet/6190xx19521.pdf</a> / <p>Created 11/27/2014, Karrer Zheng / <p>2014 (C) Wurth Elektronik
footprint 61900619521
pins: 1, 2, 3, 4, 5, 6

## 61900711121
designator J?, comment <b> WR-WTB 2.54mm Male Locking Header, 7 Pins</b>=>Code : Con_WTB_2.54_PCB_THT_61900711121 / <br><a href="http://katalog.we-online.de/media/thumbs2/eican/thb_Con_WTB_2.54_PCB_THT_6190xx11121_pf2.jpg" title="Enlarge picture"> / <img src="http://katalog.we-online.de/media/thumbs2/eican/thb_Con_WTB_2.54_PCB_THT_6190xx11121_pf2.jpg"  width="320"></a><p> / Details see: <a href="http://katalog.we-online.de/en/em/619_0xx_111_21">http://katalog.we-online.de/en/em/619_0xx_111_21</a><p> / Created 2014-06-05, Karrer Zheng<br> / 2014 (C) Würth Elektronik
footprint 61900711121
pins: 1, 2, 3, 4, 5, 6, 7

## 61900811021
designator J?, comment <b> WR-WTB 2.54mm Right Angled Locking Header Bottom Locking, 8 Pins</b>=>Code : Con_WTB_2.54_PCB_THT_61900811021 / <br><a href="http://katalog.we-online.de/media/thumbs2/eican/thb_Con_WTB_2.54_PCB_THT_6190xx11021_pf2.jpg" title="Enlarge picture"> / <img src="http://katalog.we-online.de/media/thumbs2/eican/thb_Con_WTB_2.54_PCB_THT_6190xx11021_pf2.jpg"  width="320"></a><p> / Details see: <a href="http://katalog.we-online.de/en/em/619_0xx_110_21">http://katalog.we-online.de/en/em/619_0xx_110_21</a><p> / Created 2014-06-05, Karrer Zheng<br> / 2014 (C) Würth Elektronik
footprint 61900811021
pins: 1, 2, 3, 4, 5, 6, 7, 8

## 61900811121
designator J?, comment <b> WR-WTB 2.54mm Male Locking Header, 8 Pins</b>=>Code : Con_WTB_2.54_PCB_THT_61900811121 / <br><a href="http://katalog.we-online.de/media/thumbs2/eican/thb_Con_WTB_2.54_PCB_THT_6190xx11121_pf2.jpg" title="Enlarge picture"> / <img src="http://katalog.we-online.de/media/thumbs2/eican/thb_Con_WTB_2.54_PCB_THT_6190xx11121_pf2.jpg"  width="320"></a><p> / Details see: <a href="http://katalog.we-online.de/en/em/619_0xx_111_21">http://katalog.we-online.de/en/em/619_0xx_111_21</a><p> / Created 2014-06-05, Karrer Zheng<br> / 2014 (C) Würth Elektronik
footprint 61900811121
pins: 1, 2, 3, 4, 5, 6, 7, 8

## 61900819521
designator J?, comment <b> WR-WTB 2.54mm Right Angled Locking Header Top Locking, 8 Pins</b>=>Code : Con_WTB_2.54_PCB_THT_61900819521 / <br><a href="http://katalog.we-online.de/media/thumbs2/eican/thb_Con_WTB_2.54_PCB_THT_6190xx19521_pf2.jpg" title="Enlarge picture"> / <img src="http://katalog.we-online.de/media/thumbs2/eican/thb_Con_WTB_2.54_PCB_THT_6190xx19521_pf2.jpg"  width="320"></a><p> / Details see: <a href="http://katalog.we-online.de/en/em/619_0xx_195_21">http://katalog.we-online.de/en/em/619_0xx_195_21</a><p> / Created 2014-06-05, Karrer Zheng<br> / 2014 (C) Würth Elektronik
footprint 61900819521
pins: 1, 2, 3, 4, 5, 6, 7, 8

## 61901011021
designator J?, comment <b> WR-WTB 2.54mm Right Angled Locking Header Bottom Locking, 10 Pins</b>=>Code : Con_WTB_2.54_PCB_THT_61901011021 / <br><a href="http://katalog.we-online.de/media/thumbs2/eican/thb_Con_WTB_2.54_PCB_THT_6190xx11021_pf2.jpg" title="Enlarge picture"> / <img src="http://katalog.we-online.de/media/thumbs2/eican/thb_Con_WTB_2.54_PCB_THT_6190xx11021_pf2.jpg"  width="320"></a><p> / Details see: <a href="http://katalog.we-online.de/en/em/619_0xx_110_21">http://katalog.we-online.de/en/em/619_0xx_110_21</a><p> / Created 2014-06-05, Karrer Zheng<br> / 2014 (C) Würth Elektronik
footprint 61901011021
pins: 1, 2, 3, 4, 5, 6, 7, 8, 9, 10

## 61901011121
designator J?, comment <b> WR-WTB 2.54mm Male Locking Header, 10 Pins</b>=>Code : Con_WTB_2.54_PCB_THT_61901011121 / <br><a href="http://katalog.we-online.de/media/thumbs2/eican/thb_Con_WTB_2.54_PCB_THT_6190xx11121_pf2.jpg" title="Enlarge picture"> / <img src="http://katalog.we-online.de/media/thumbs2/eican/thb_Con_WTB_2.54_PCB_THT_6190xx11121_pf2.jpg"  width="320"></a><p> / Details see: <a href="http://katalog.we-online.de/en/em/619_0xx_111_21">http://katalog.we-online.de/en/em/619_0xx_111_21</a><p> / Created 2014-06-05, Karrer Zheng<br> / 2014 (C) Würth Elektronik
footprint 61901011121
pins: 1, 2, 3, 4, 5, 6, 7, 8, 9, 10

## 61901019521
designator J?, comment <b> WR-WTB 2.54mm Right Angled Locking Header Top Locking, 10 Pins</b>=>Code : Con_WTB_2.54_PCB_THT_61901019521 / <br><a href="http://katalog.we-online.de/media/thumbs2/eican/thb_Con_WTB_2.54_PCB_THT_6190xx19521_pf2.jpg" title="Enlarge picture"> / <img src="http://katalog.we-online.de/media/thumbs2/eican/thb_Con_WTB_2.54_PCB_THT_6190xx19521_pf2.jpg"  width="320"></a><p> / Details see: <a href="http://katalog.we-online.de/en/em/619_0xx_195_21">http://katalog.we-online.de/en/em/619_0xx_195_21</a><p> / Created 2014-06-05, Karrer Zheng<br> / 2014 (C) Würth Elektronik
footprint 61901019521
pins: 1, 2, 3, 4, 5, 6, 7, 8, 9, 10

## 62000211622
designator J?, comment <b> WR-WTB 2.00mm Male Vertical Shrouded Header, 2 Pins</b>=>Code : Con_WTB_2.00_PCB_THT_62000211622 / <br><a href="http://katalog.we-online.de/media/thumbs2/eican/thb_Con_WTB_2.00_PCB_THT_6200xx11622_pf2.jpg" title="Enlarge picture"> / <img src="http://katalog.we-online.de/media/thumbs2/eican/thb_Con_WTB_2.00_PCB_THT_6200xx11622_pf2.jpg"  width="320"></a><p> / Details see: <a href="http://katalog.we-online.de/en/em/620_0xx_116_22">http://katalog.we-online.de/en/em/620_0xx_116_22</a><p> / Created 2014-06-05, Karrer Zheng<br> / 2014 (C) Würth Elektronik
footprint 62000211622
pins: 1, 2

## 62000211722
designator J?, comment <b> WR-WTB 2.00mm Male Horizontal Shrouded Header, 2 Pins</b>=>Code : Con_WTB_2.00_PCB_THT_62000211722 / <br><a href="http://katalog.we-online.de/media/thumbs2/eican/thb_Con_WTB_2.00_PCB_THT_6200xx11722_pf2.jpg" title="Enlarge picture"> / <img src="http://katalog.we-online.de/media/thumbs2/eican/thb_Con_WTB_2.00_PCB_THT_6200xx11722_pf2.jpg"  width="320"></a><p> / Details see: <a href="http://katalog.we-online.de/en/em/620_0xx_117_22">http://katalog.we-online.de/en/em/620_0xx_117_22</a><p> / Created 2014-06-05, Karrer Zheng<br> / 2014 (C) Würth Elektronik
footprint 62000211722
pins: 1, 2

## 62000311622
designator J?, comment <b> WR-WTB 2.00mm Male Vertical Shrouded Header, 3 Pins</b>=>Code : Con_WTB_2.00_PCB_THT_62000311622 / <br><a href="http://katalog.we-online.de/media/thumbs2/eican/thb_Con_WTB_2.00_PCB_THT_6200xx11622_pf2.jpg" title="Enlarge picture"> / <img src="http://katalog.we-online.de/media/thumbs2/eican/thb_Con_WTB_2.00_PCB_THT_6200xx11622_pf2.jpg"  width="320"></a><p> / Details see: <a href="http://katalog.we-online.de/en/em/620_0xx_116_22">http://katalog.we-online.de/en/em/620_0xx_116_22</a><p> / Created 2014-06-05, Karrer Zheng<br> / 2014 (C) Würth Elektronik
footprint 62000311622
pins: 1, 2, 3

## 62000311722
designator J?, comment <b> WR-WTB 2.00mm Male Horizontal Shrouded Header, 3 Pins</b>=>Code : Con_WTB_2.00_PCB_THT_62000311722 / <br><a href="http://katalog.we-online.de/media/thumbs2/eican/thb_Con_WTB_2.00_PCB_THT_6200xx11722_pf2.jpg" title="Enlarge picture"> / <img src="http://katalog.we-online.de/media/thumbs2/eican/thb_Con_WTB_2.00_PCB_THT_6200xx11722_pf2.jpg"  width="320"></a><p> / Details see: <a href="http://katalog.we-online.de/en/em/620_0xx_117_22">http://katalog.we-online.de/en/em/620_0xx_117_22</a><p> / Created 2014-06-05, Karrer Zheng<br> / 2014 (C) Würth Elektronik
footprint 62000311722
pins: 1, 2, 3

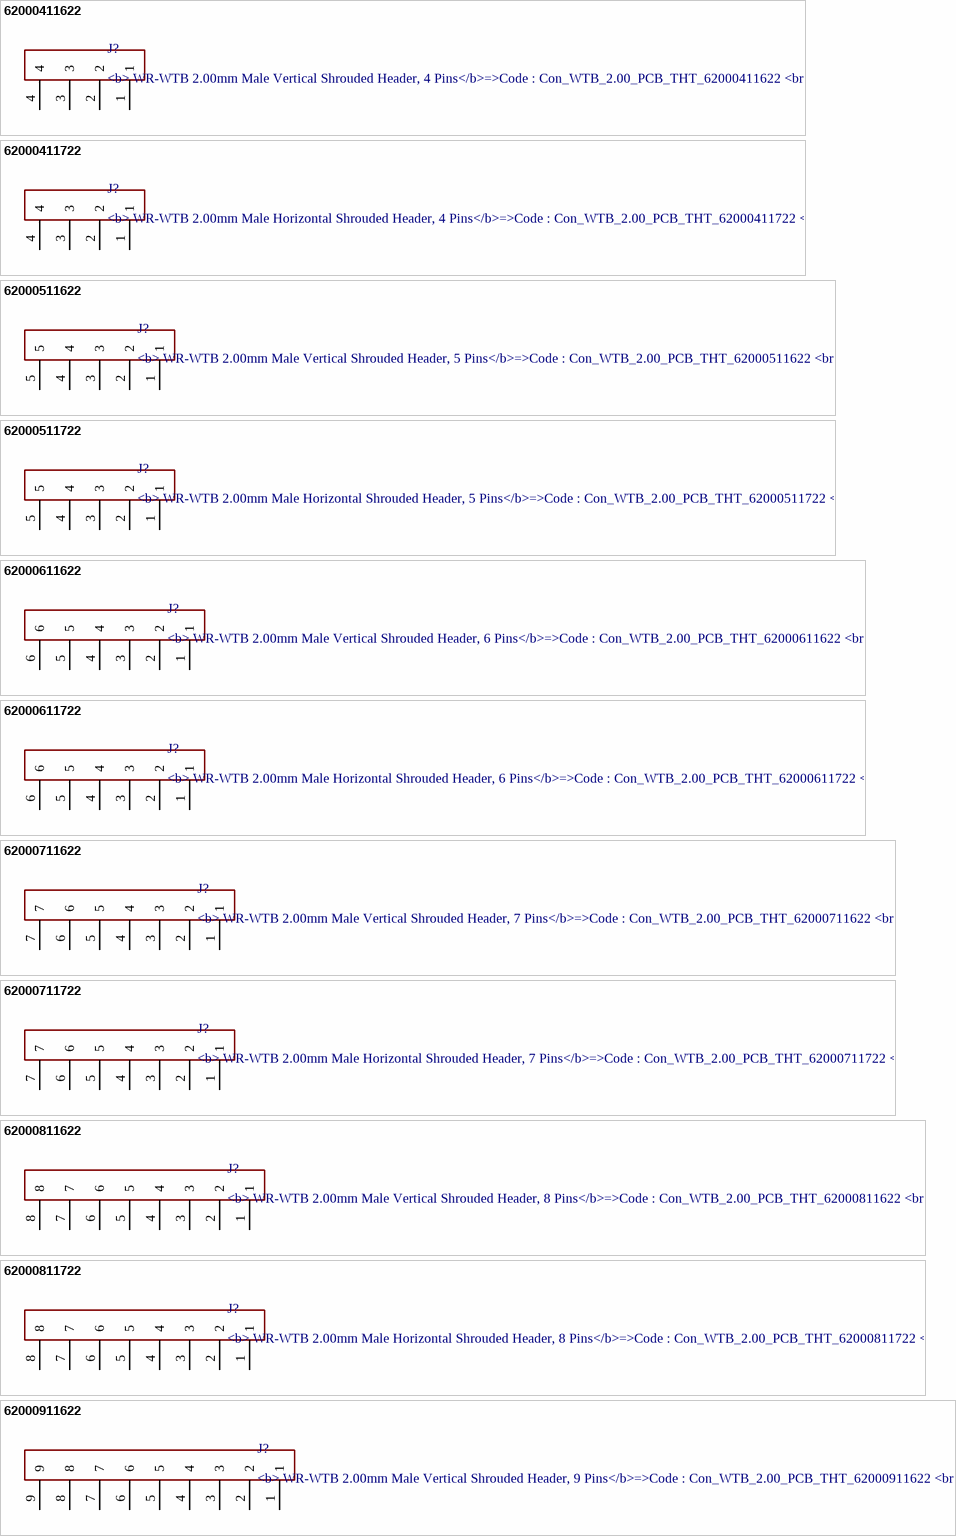
[diagram p11: symbols 62000411622 to 62000911622]

## 62000411622
designator J?, comment <b> WR-WTB 2.00mm Male Vertical Shrouded Header, 4 Pins</b>=>Code : Con_WTB_2.00_PCB_THT_62000411622 / <br><a href="http://katalog.we-online.de/media/thumbs2/eican/thb_Con_WTB_2.00_PCB_THT_6200xx11622_pf2.jpg" title="Enlarge picture"> / <img src="http://katalog.we-online.de/media/thumbs2/eican/thb_Con_WTB_2.00_PCB_THT_6200xx11622_pf2.jpg"  width="320"></a><p> / Details see: <a href="http://katalog.we-online.de/en/em/620_0xx_116_22">http://katalog.we-online.de/en/em/620_0xx_116_22</a><p> / Created 2014-06-05, Karrer Zheng<br> / 2014 (C) Würth Elektronik
footprint 62000411622
pins: 1, 2, 3, 4

## 62000411722
designator J?, comment <b> WR-WTB 2.00mm Male Horizontal Shrouded Header, 4 Pins</b>=>Code : Con_WTB_2.00_PCB_THT_62000411722 / <br><a href="http://katalog.we-online.de/media/thumbs2/eican/thb_Con_WTB_2.00_PCB_THT_6200xx11722_pf2.jpg" title="Enlarge picture"> / <img src="http://katalog.we-online.de/media/thumbs2/eican/thb_Con_WTB_2.00_PCB_THT_6200xx11722_pf2.jpg"  width="320"></a><p> / Details see: <a href="http://katalog.we-online.de/en/em/620_0xx_117_22">http://katalog.we-online.de/en/em/620_0xx_117_22</a><p> / Created 2014-06-05, Karrer Zheng<br> / 2014 (C) Würth Elektronik
footprint 62000411722
pins: 1, 2, 3, 4

## 62000511622
designator J?, comment <b> WR-WTB 2.00mm Male Vertical Shrouded Header, 5 Pins</b>=>Code : Con_WTB_2.00_PCB_THT_62000511622 / <br><a href="http://katalog.we-online.de/media/thumbs2/eican/thb_Con_WTB_2.00_PCB_THT_6200xx11622_pf2.jpg" title="Enlarge picture"> / <img src="http://katalog.we-online.de/media/thumbs2/eican/thb_Con_WTB_2.00_PCB_THT_6200xx11622_pf2.jpg"  width="320"></a><p> / Details see: <a href="http://katalog.we-online.de/en/em/620_0xx_116_22">http://katalog.we-online.de/en/em/620_0xx_116_22</a><p> / Created 2014-06-05, Karrer Zheng<br> / 2014 (C) Würth Elektronik
footprint 62000511622
pins: 1, 2, 3, 4, 5

## 62000511722
designator J?, comment <b> WR-WTB 2.00mm Male Horizontal Shrouded Header, 5 Pins</b>=>Code : Con_WTB_2.00_PCB_THT_62000511722 / <br><a href="http://katalog.we-online.de/media/thumbs2/eican/thb_Con_WTB_2.00_PCB_THT_6200xx11722_pf2.jpg" title="Enlarge picture"> / <img src="http://katalog.we-online.de/media/thumbs2/eican/thb_Con_WTB_2.00_PCB_THT_6200xx11722_pf2.jpg"  width="320"></a><p> / Details see: <a href="http://katalog.we-online.de/en/em/620_0xx_117_22">http://katalog.we-online.de/en/em/620_0xx_117_22</a><p> / Created 2014-06-05, Karrer Zheng<br> / 2014 (C) Würth Elektronik
footprint 62000511722
pins: 1, 2, 3, 4, 5

## 62000611622
designator J?, comment <b> WR-WTB 2.00mm Male Vertical Shrouded Header, 6 Pins</b>=>Code : Con_WTB_2.00_PCB_THT_62000611622 / <br><a href="http://katalog.we-online.de/media/thumbs2/eican/thb_Con_WTB_2.00_PCB_THT_6200xx11622_pf2.jpg" title="Enlarge picture"> / <img src="http://katalog.we-online.de/media/thumbs2/eican/thb_Con_WTB_2.00_PCB_THT_6200xx11622_pf2.jpg"  width="320"></a><p> / Details see: <a href="http://katalog.we-online.de/en/em/620_0xx_116_22">http://katalog.we-online.de/en/em/620_0xx_116_22</a><p> / Created 2014-06-05, Karrer Zheng<br> / 2014 (C) Würth Elektronik
footprint 62000611622
pins: 1, 2, 3, 4, 5, 6

## 62000611722
designator J?, comment <b> WR-WTB 2.00mm Male Horizontal Shrouded Header, 6 Pins</b>=>Code : Con_WTB_2.00_PCB_THT_62000611722 / <br><a href="http://katalog.we-online.de/media/thumbs2/eican/thb_Con_WTB_2.00_PCB_THT_6200xx11722_pf2.jpg" title="Enlarge picture"> / <img src="http://katalog.we-online.de/media/thumbs2/eican/thb_Con_WTB_2.00_PCB_THT_6200xx11722_pf2.jpg"  width="320"></a><p> / Details see: <a href="http://katalog.we-online.de/en/em/620_0xx_117_22">http://katalog.we-online.de/en/em/620_0xx_117_22</a><p> / Created 2014-06-05, Karrer Zheng<br> / 2014 (C) Würth Elektronik
footprint 62000611722
pins: 1, 2, 3, 4, 5, 6

## 62000711622
designator J?, comment <b> WR-WTB 2.00mm Male Vertical Shrouded Header, 7 Pins</b>=>Code : Con_WTB_2.00_PCB_THT_62000711622 / <br><a href="http://katalog.we-online.de/media/thumbs2/eican/thb_Con_WTB_2.00_PCB_THT_6200xx11622_pf2.jpg" title="Enlarge picture"> / <img src="http://katalog.we-online.de/media/thumbs2/eican/thb_Con_WTB_2.00_PCB_THT_6200xx11622_pf2.jpg"  width="320"></a><p> / Details see: <a href="http://katalog.we-online.de/en/em/620_0xx_116_22">http://katalog.we-online.de/en/em/620_0xx_116_22</a><p> / Created 2014-06-05, Karrer Zheng<br> / 2014 (C) Würth Elektronik
footprint 62000711622
pins: 1, 2, 3, 4, 5, 6, 7

## 62000711722
designator J?, comment <b> WR-WTB 2.00mm Male Horizontal Shrouded Header, 7 Pins</b>=>Code : Con_WTB_2.00_PCB_THT_62000711722 / <br><a href="http://katalog.we-online.de/media/thumbs2/eican/thb_Con_WTB_2.00_PCB_THT_6200xx11722_pf2.jpg" title="Enlarge picture"> / <img src="http://katalog.we-online.de/media/thumbs2/eican/thb_Con_WTB_2.00_PCB_THT_6200xx11722_pf2.jpg"  width="320"></a><p> / Details see: <a href="http://katalog.we-online.de/en/em/620_0xx_117_22">http://katalog.we-online.de/en/em/620_0xx_117_22</a><p> / Created 2014-06-05, Karrer Zheng<br> / 2014 (C) Würth Elektronik
footprint 62000711722
pins: 1, 2, 3, 4, 5, 6, 7

## 62000811622
designator J?, comment <b> WR-WTB 2.00mm Male Vertical Shrouded Header, 8 Pins</b>=>Code : Con_WTB_2.00_PCB_THT_62000811622 / <br><a href="http://katalog.we-online.de/media/thumbs2/eican/thb_Con_WTB_2.00_PCB_THT_6200xx11622_pf2.jpg" title="Enlarge picture"> / <img src="http://katalog.we-online.de/media/thumbs2/eican/thb_Con_WTB_2.00_PCB_THT_6200xx11622_pf2.jpg"  width="320"></a><p> / Details see: <a href="http://katalog.we-online.de/en/em/620_0xx_116_22">http://katalog.we-online.de/en/em/620_0xx_116_22</a><p> / Created 2014-06-05, Karrer Zheng<br> / 2014 (C) Würth Elektronik
footprint 62000811622
pins: 1, 2, 3, 4, 5, 6, 7, 8

## 62000811722
designator J?, comment <b> WR-WTB 2.00mm Male Horizontal Shrouded Header, 8 Pins</b>=>Code : Con_WTB_2.00_PCB_THT_62000811722 / <br><a href="http://katalog.we-online.de/media/thumbs2/eican/thb_Con_WTB_2.00_PCB_THT_6200xx11722_pf2.jpg" title="Enlarge picture"> / <img src="http://katalog.we-online.de/media/thumbs2/eican/thb_Con_WTB_2.00_PCB_THT_6200xx11722_pf2.jpg"  width="320"></a><p> / Details see: <a href="http://katalog.we-online.de/en/em/620_0xx_117_22">http://katalog.we-online.de/en/em/620_0xx_117_22</a><p> / Created 2014-06-05, Karrer Zheng<br> / 2014 (C) Würth Elektronik
footprint 62000811722
pins: 1, 2, 3, 4, 5, 6, 7, 8

## 62000911622
designator J?, comment <b> WR-WTB 2.00mm Male Vertical Shrouded Header, 9 Pins</b>=>Code : Con_WTB_2.00_PCB_THT_62000911622 / <br><a href="http://katalog.we-online.de/media/thumbs2/eican/thb_Con_WTB_2.00_PCB_THT_6200xx11622_pf2.jpg" title="Enlarge picture"> / <img src="http://katalog.we-online.de/media/thumbs2/eican/thb_Con_WTB_2.00_PCB_THT_6200xx11622_pf2.jpg"  width="320"></a><p> / Details see: <a href="http://katalog.we-online.de/en/em/620_0xx_116_22">http://katalog.we-online.de/en/em/620_0xx_116_22</a><p> / Created 2014-06-05, Karrer Zheng<br> / 2014 (C) Würth Elektronik
footprint 62000911622
pins: 1, 2, 3, 4, 5, 6, 7, 8, 9

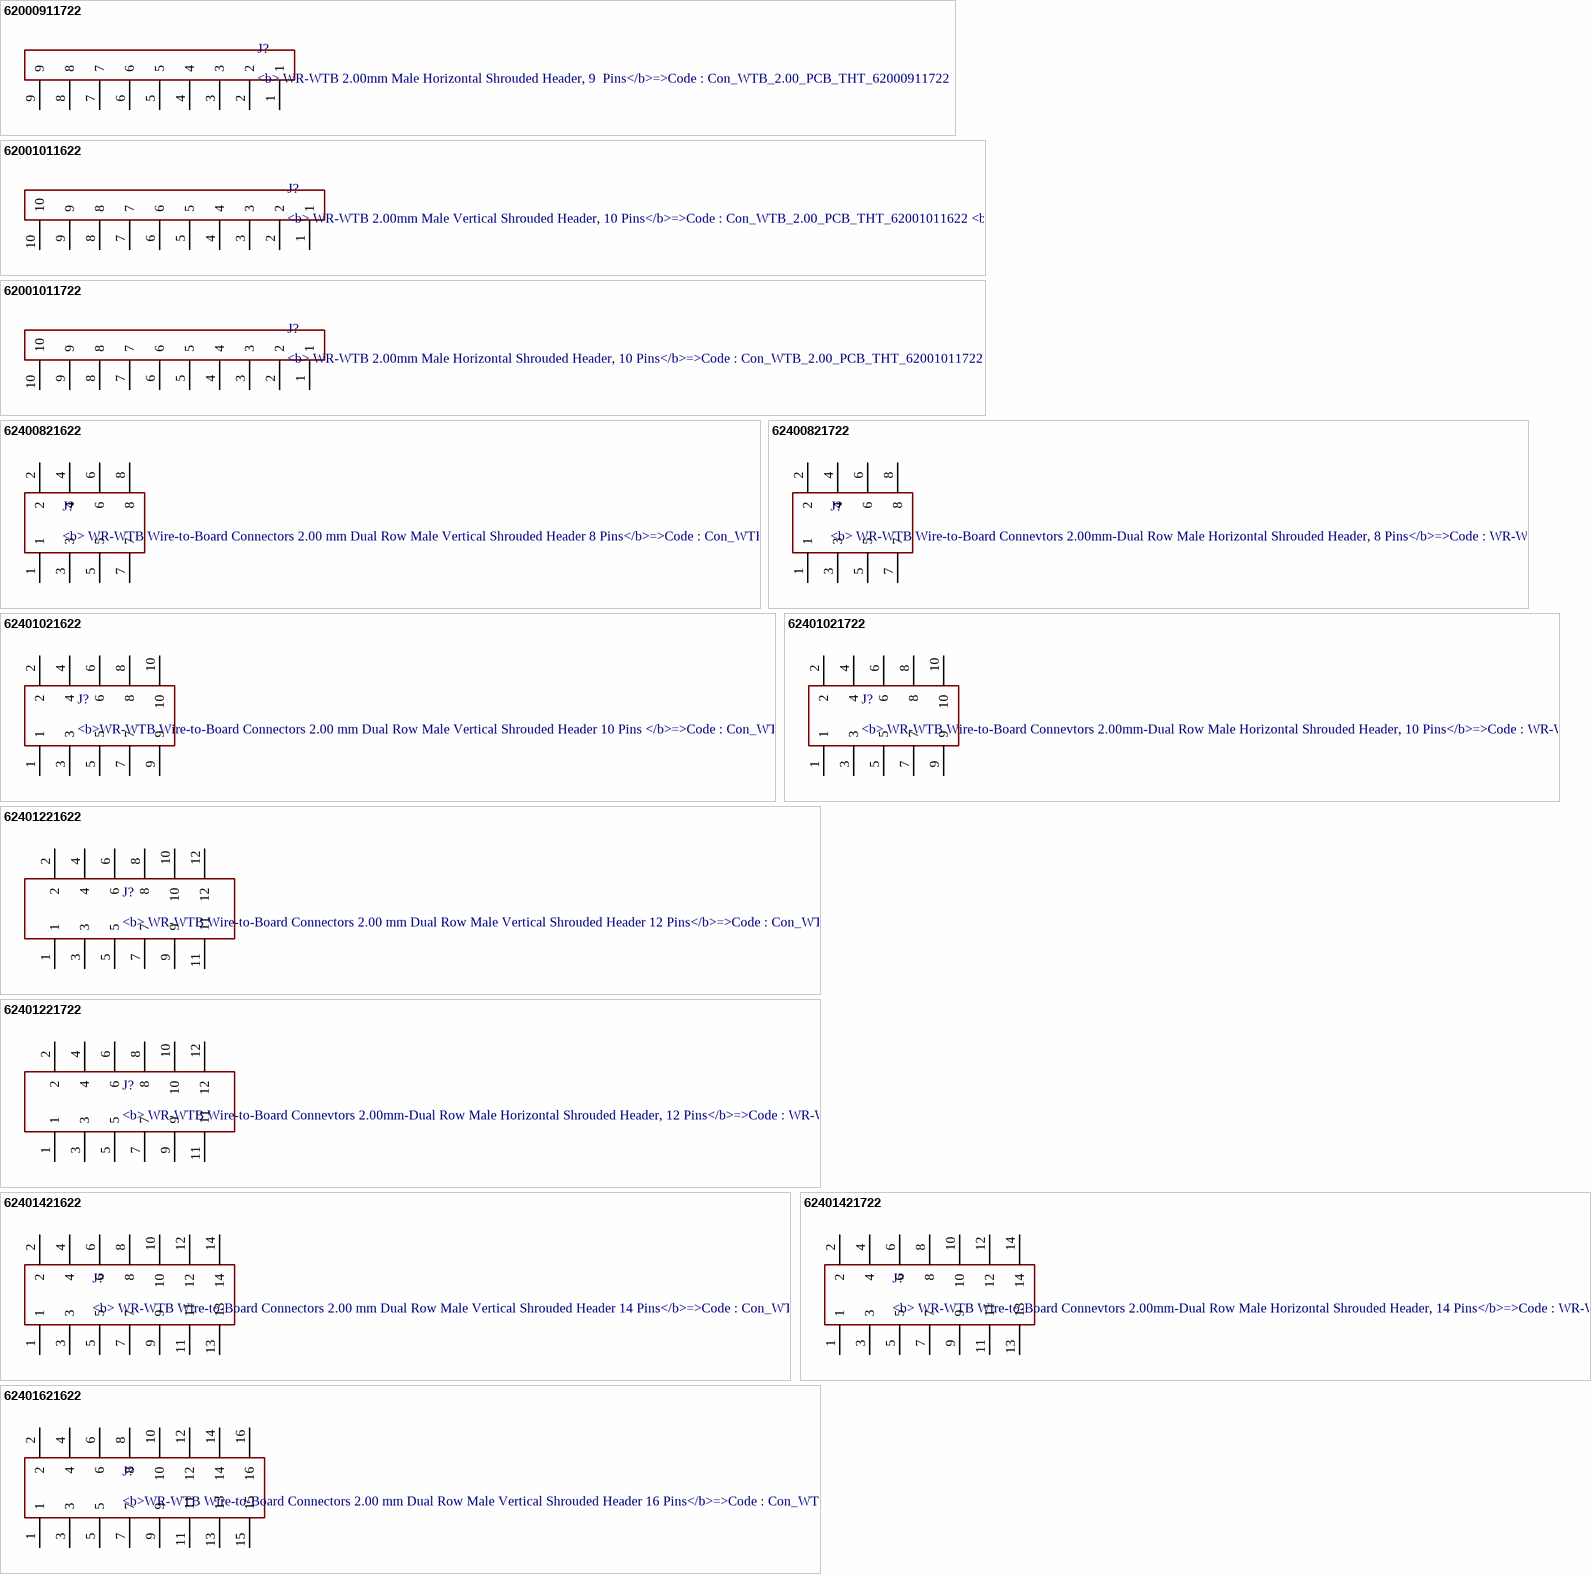
[diagram p12: symbols 62000911722 to 62401621622]

## 62000911722
designator J?, comment <b> WR-WTB 2.00mm Male Horizontal Shrouded Header, 9  Pins</b>=>Code : Con_WTB_2.00_PCB_THT_62000911722 / <br><a href="http://katalog.we-online.de/media/thumbs2/eican/thb_Con_WTB_2.00_PCB_THT_6200xx11722_pf2.jpg" title="Enlarge picture"> / <img src="http://katalog.we-online.de/media/thumbs2/eican/thb_Con_WTB_2.00_PCB_THT_6200xx11722_pf2.jpg"  width="320"></a><p> / Details see: <a href="http://katalog.we-online.de/en/em/620_0xx_117_22">http://katalog.we-online.de/en/em/620_0xx_117_22</a><p> / Created 2014-06-05, Karrer Zheng<br> / 2014 (C) Würth Elektronik
footprint 62000911722
pins: 1, 2, 3, 4, 5, 6, 7, 8, 9

## 62001011622
designator J?, comment <b> WR-WTB 2.00mm Male Vertical Shrouded Header, 10 Pins</b>=>Code : Con_WTB_2.00_PCB_THT_62001011622 / <br><a href="http://katalog.we-online.de/media/thumbs2/eican/thb_Con_WTB_2.00_PCB_THT_6200xx11622_pf2.jpg" title="Enlarge picture"> / <img src="http://katalog.we-online.de/media/thumbs2/eican/thb_Con_WTB_2.00_PCB_THT_6200xx11622_pf2.jpg"  width="320"></a><p> / Details see: <a href="http://katalog.we-online.de/en/em/620_0xx_116_22">http://katalog.we-online.de/en/em/620_0xx_116_22</a><p> / Created 2014-06-05, Karrer Zheng<br> / 2014 (C) Würth Elektronik
footprint 62001011622
pins: 1, 2, 3, 4, 5, 6, 7, 8, 9, 10

## 62001011722
designator J?, comment <b> WR-WTB 2.00mm Male Horizontal Shrouded Header, 10 Pins</b>=>Code : Con_WTB_2.00_PCB_THT_62001011722 / <br><a href="http://katalog.we-online.de/media/thumbs2/eican/thb_Con_WTB_2.00_PCB_THT_6200xx11722_pf2.jpg" title="Enlarge picture"> / <img src="http://katalog.we-online.de/media/thumbs2/eican/thb_Con_WTB_2.00_PCB_THT_6200xx11722_pf2.jpg"  width="320"></a><p> / Details see: <a href="http://katalog.we-online.de/en/em/620_0xx_117_22">http://katalog.we-online.de/en/em/620_0xx_117_22</a><p> / Created 2014-06-05, Karrer Zheng<br> / 2014 (C) Würth Elektronik
footprint 62001011722
pins: 1, 2, 3, 4, 5, 6, 7, 8, 9, 10

## 62400821622
designator J?, comment <b> WR-WTB Wire-to-Board Connectors 2.00 mm Dual Row Male Vertical Shrouded Header 8 Pins</b>=>Code : Con_WTB_2.00_PCB_THT_62400821622 / <br><a href="http://katalog.we-online.de/media/thumbs2/eican/thb_Con_WTB_2.00_PCB_THT_6240xx21622_pf2.jpg" title="Enlarge picture"> / <img src="http://katalog.we-online.de/media/thumbs2/eican/thb_Con_WTB_2.00_PCB_THT_6240xx21622_pf2.jpg"  width="320"></a><p> / Details see: <a href="http://katalog.we-online.de/en/em/624_0xx_216_22">http://katalog.we-online.de/en/em/624_0xx_216_22</a><p> / Created 2014-06-05, Karrer Zheng<br> / 2014 (C) Würth Elektronik
footprint 62400821622
pins: 1, 2, 3, 4, 5, 6, 7, 8

## 62400821722
designator J?, comment <b> WR-WTB Wire-to-Board Connevtors 2.00mm-Dual Row Male Horizontal Shrouded Header, 8 Pins</b>=>Code : WR-WTB_Stiftleiste_62400821722 / <br><a href="http://katalog.we-online.de/media/thumbs2/eican/thb_WR-WTB_Stiftleiste_6240xx21722.jpg" title="Enlarge picture"> / <img src="http://katalog.we-online.de/media/thumbs2/eican/thb_WR-WTB_Stiftleiste_6240xx21722.jpg"  width="320"></a><p> / Details see: <a href="http://katalog.we-online.de/en/em/624_0xx_217_22">http://katalog.we-online.de/en/em/624_0xx_217_22</a><p> / Created 2014-06-05, Karrer Zheng<br> / 2014 (C) Würth Elektronik
footprint 62400821722
pins: 1, 2, 3, 4, 5, 6, 7, 8

## 62401021622
designator J?, comment <b>WR-WTB Wire-to-Board Connectors 2.00 mm Dual Row Male Vertical Shrouded Header 10 Pins </b>=>Code : Con_WTB_2.00_PCB_THT_62401021622 / <br><a href="http://katalog.we-online.de/media/thumbs2/eican/thb_Con_WTB_2.00_PCB_THT_6240xx21622_pf2.jpg" title="Enlarge picture"> / <img src="http://katalog.we-online.de/media/thumbs2/eican/thb_Con_WTB_2.00_PCB_THT_6240xx21622_pf2.jpg"  width="320"></a><p> / Details see: <a href="http://katalog.we-online.de/en/em/624_0xx_216_22">http://katalog.we-online.de/en/em/624_0xx_216_22</a><p> / Created 2014-06-05, Karrer Zheng<br> / 2014 (C) Würth Elektronik
footprint 62401021622
pins: 1, 2, 3, 4, 5, 6, 7, 8, 9, 10

## 62401021722
designator J?, comment <b> WR-WTB Wire-to-Board Connevtors 2.00mm-Dual Row Male Horizontal Shrouded Header, 10 Pins</b>=>Code : WR-WTB_Stiftleiste_62401021722 / <br><a href="http://katalog.we-online.de/media/thumbs2/eican/thb_WR-WTB_Stiftleiste_6240xx21722.jpg" title="Enlarge picture"> / <img src="http://katalog.we-online.de/media/thumbs2/eican/thb_WR-WTB_Stiftleiste_6240xx21722.jpg"  width="320"></a><p> / Details see: <a href="http://katalog.we-online.de/en/em/624_0xx_217_22">http://katalog.we-online.de/en/em/624_0xx_217_22</a><p> / Created 2014-06-05, Karrer Zheng<br> / 2014 (C) Würth Elektronik
footprint 62401021722
pins: 1, 2, 3, 4, 5, 6, 7, 8, 9, 10

## 62401221622
designator J?, comment <b> WR-WTB Wire-to-Board Connectors 2.00 mm Dual Row Male Vertical Shrouded Header 12 Pins</b>=>Code : Con_WTB_2.00_PCB_THT_62401221622 / <br><a href="http://katalog.we-online.de/media/thumbs2/eican/thb_Con_WTB_2.00_PCB_THT_6240xx21622_pf2.jpg" title="Enlarge picture"> / <img src="http://katalog.we-online.de/media/thumbs2/eican/thb_Con_WTB_2.00_PCB_THT_6240xx21622_pf2.jpg"  width="320"></a><p> / Details see: <a href="http://katalog.we-online.de/en/em/624_0xx_216_22">http://katalog.we-online.de/en/em/624_0xx_216_22</a><p> / Created 2014-06-05, Karrer Zheng<br> / 2014 (C) Würth Elektronik
footprint 62401221622
pins: 1, 2, 3, 4, 5, 6, 7, 8, 9, 10, 11, 12

## 62401221722
designator J?, comment <b> WR-WTB Wire-to-Board Connevtors 2.00mm-Dual Row Male Horizontal Shrouded Header, 12 Pins</b>=>Code : WR-WTB_Stiftleiste_62401221722 / <br><a href="http://katalog.we-online.de/media/thumbs2/eican/thb_WR-WTB_Stiftleiste_6240xx21722.jpg" title="Enlarge picture"> / <img src="http://katalog.we-online.de/media/thumbs2/eican/thb_WR-WTB_Stiftleiste_6240xx21722.jpg"  width="320"></a><p> / Details see: <a href="http://katalog.we-online.de/en/em/624_0xx_217_22">http://katalog.we-online.de/en/em/624_0xx_217_22</a><p> / Created 2014-06-05, Karrer Zheng<br> / 2014 (C) Würth Elektronik
footprint 62401221722
pins: 1, 2, 3, 4, 5, 6, 7, 8, 9, 10, 11, 12

## 62401421622
designator J?, comment <b> WR-WTB Wire-to-Board Connectors 2.00 mm Dual Row Male Vertical Shrouded Header 14 Pins</b>=>Code : Con_WTB_2.00_PCB_THT_62401421622 / <br><a href="http://katalog.we-online.de/media/thumbs2/eican/thb_Con_WTB_2.00_PCB_THT_6240xx21622_pf2.jpg" title="Enlarge picture"> / <img src="http://katalog.we-online.de/media/thumbs2/eican/thb_Con_WTB_2.00_PCB_THT_6240xx21622_pf2.jpg"  width="320"></a><p> / Details see: <a href="http://katalog.we-online.de/en/em/624_0xx_216_22">http://katalog.we-online.de/en/em/624_0xx_216_22</a><p> / Created 2014-06-05, Karrer Zheng<br> / 2014 (C) Würth Elektronik
footprint 62401421622
pins: 1, 2, 3, 4, 5, 6, 7, 8, 9, 10, 11, 12, 13, 14

## 62401421722
designator J?, comment <b> WR-WTB Wire-to-Board Connevtors 2.00mm-Dual Row Male Horizontal Shrouded Header, 14 Pins</b>=>Code : WR-WTB_Stiftleiste_62401421722 / <br><a href="http://katalog.we-online.de/media/thumbs2/eican/thb_WR-WTB_Stiftleiste_6240xx21722.jpg" title="Enlarge picture"> / <img src="http://katalog.we-online.de/media/thumbs2/eican/thb_WR-WTB_Stiftleiste_6240xx21722.jpg"  width="320"></a><p> / Details see: <a href="http://katalog.we-online.de/en/em/624_0xx_217_22">http://katalog.we-online.de/en/em/624_0xx_217_22</a><p> / Created 2014-06-05, Karrer Zheng<br> / 2014 (C) Würth Elektronik
footprint 62401421722
pins: 1, 2, 3, 4, 5, 6, 7, 8, 9, 10, 11, 12, 13, 14

## 62401621622
designator J?, comment <b>WR-WTB Wire-to-Board Connectors 2.00 mm Dual Row Male Vertical Shrouded Header 16 Pins</b>=>Code : Con_WTB_2.00_PCB_THT_62401621622 / <br><a href="http://katalog.we-online.de/media/thumbs2/eican/thb_Con_WTB_2.00_PCB_THT_6240xx21622_pf2.jpg" title="Enlarge picture"> / <img src="http://katalog.we-online.de/media/thumbs2/eican/thb_Con_WTB_2.00_PCB_THT_6240xx21622_pf2.jpg"  width="320"></a><p> / Details see: <a href="http://katalog.we-online.de/en/em/624_0xx_216_22">http://katalog.we-online.de/en/em/624_0xx_216_22</a><p> / Created 2014-06-05, Karrer Zheng<br> / 2014 (C) Würth Elektronik
footprint 62401621622
pins: 1, 2, 3, 4, 5, 6, 7, 8, 9, 10, 11, 12, 13, 14, 15, 16

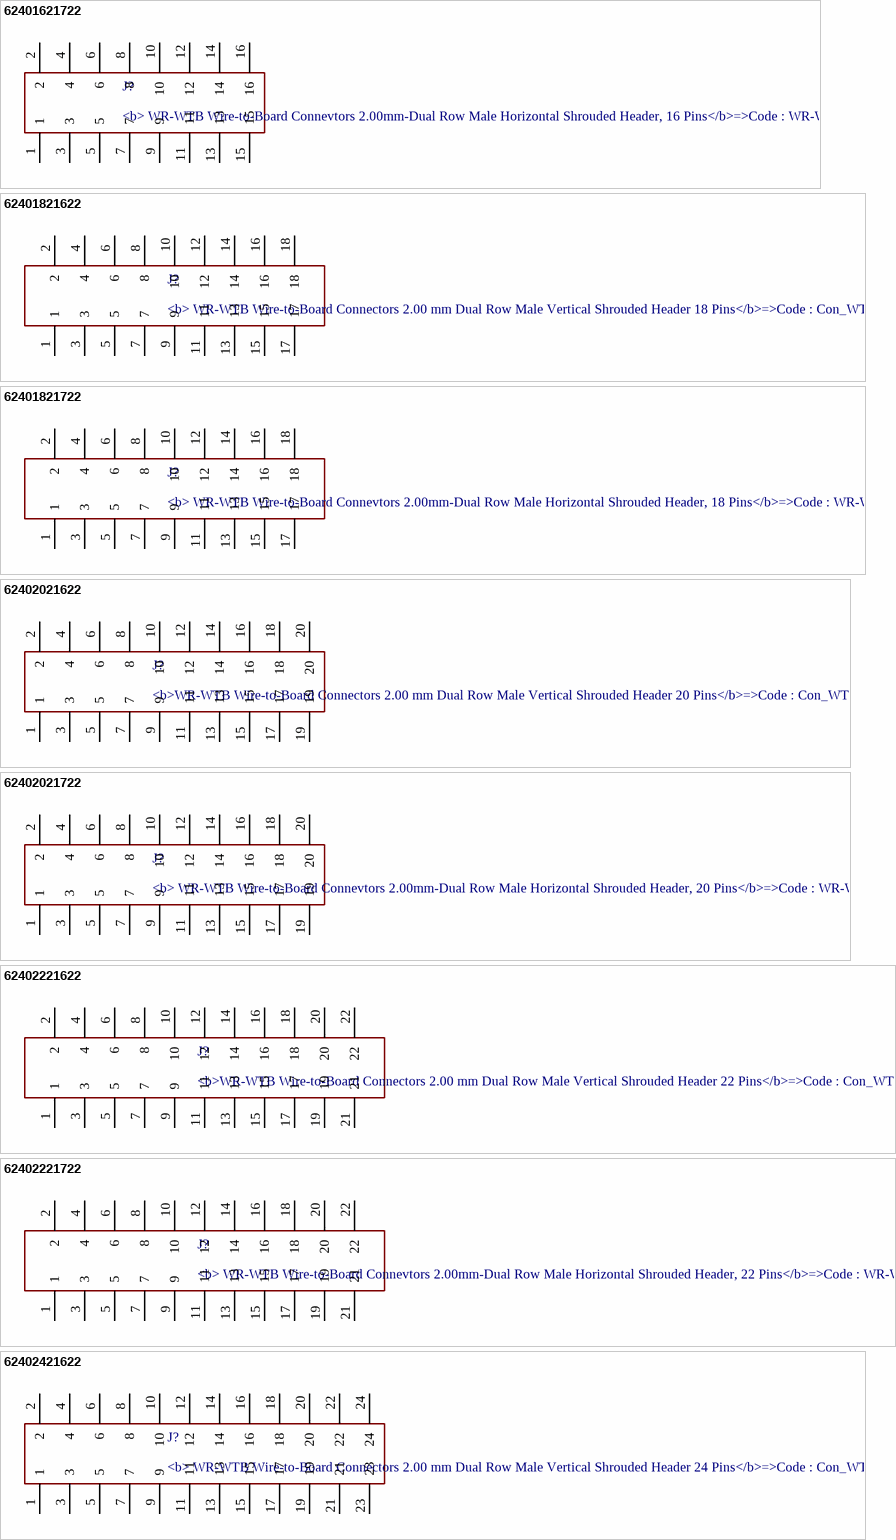
[diagram p13: symbols 62401621722 to 62402421622]

## 62401621722
designator J?, comment <b> WR-WTB Wire-to-Board Connevtors 2.00mm-Dual Row Male Horizontal Shrouded Header, 16 Pins</b>=>Code : WR-WTB_Stiftleiste_62401621722 / <br><a href="http://katalog.we-online.de/media/thumbs2/eican/thb_WR-WTB_Stiftleiste_6240xx21722.jpg" title="Enlarge picture"> / <img src="http://katalog.we-online.de/media/thumbs2/eican/thb_WR-WTB_Stiftleiste_6240xx21722.jpg"  width="320"></a><p> / Details see: <a href="http://katalog.we-online.de/en/em/624_0xx_217_22">http://katalog.we-online.de/en/em/624_0xx_217_22</a><p> / Created 2014-06-05, Karrer Zheng<br> / 2014 (C) Würth Elektronik
footprint 62401621722
pins: 1, 2, 3, 4, 5, 6, 7, 8, 9, 10, 11, 12, 13, 14, 15, 16